# Altium integrated library Xilinx XC4000 XL.IntLib: 450 symbols (part 15 of 49)
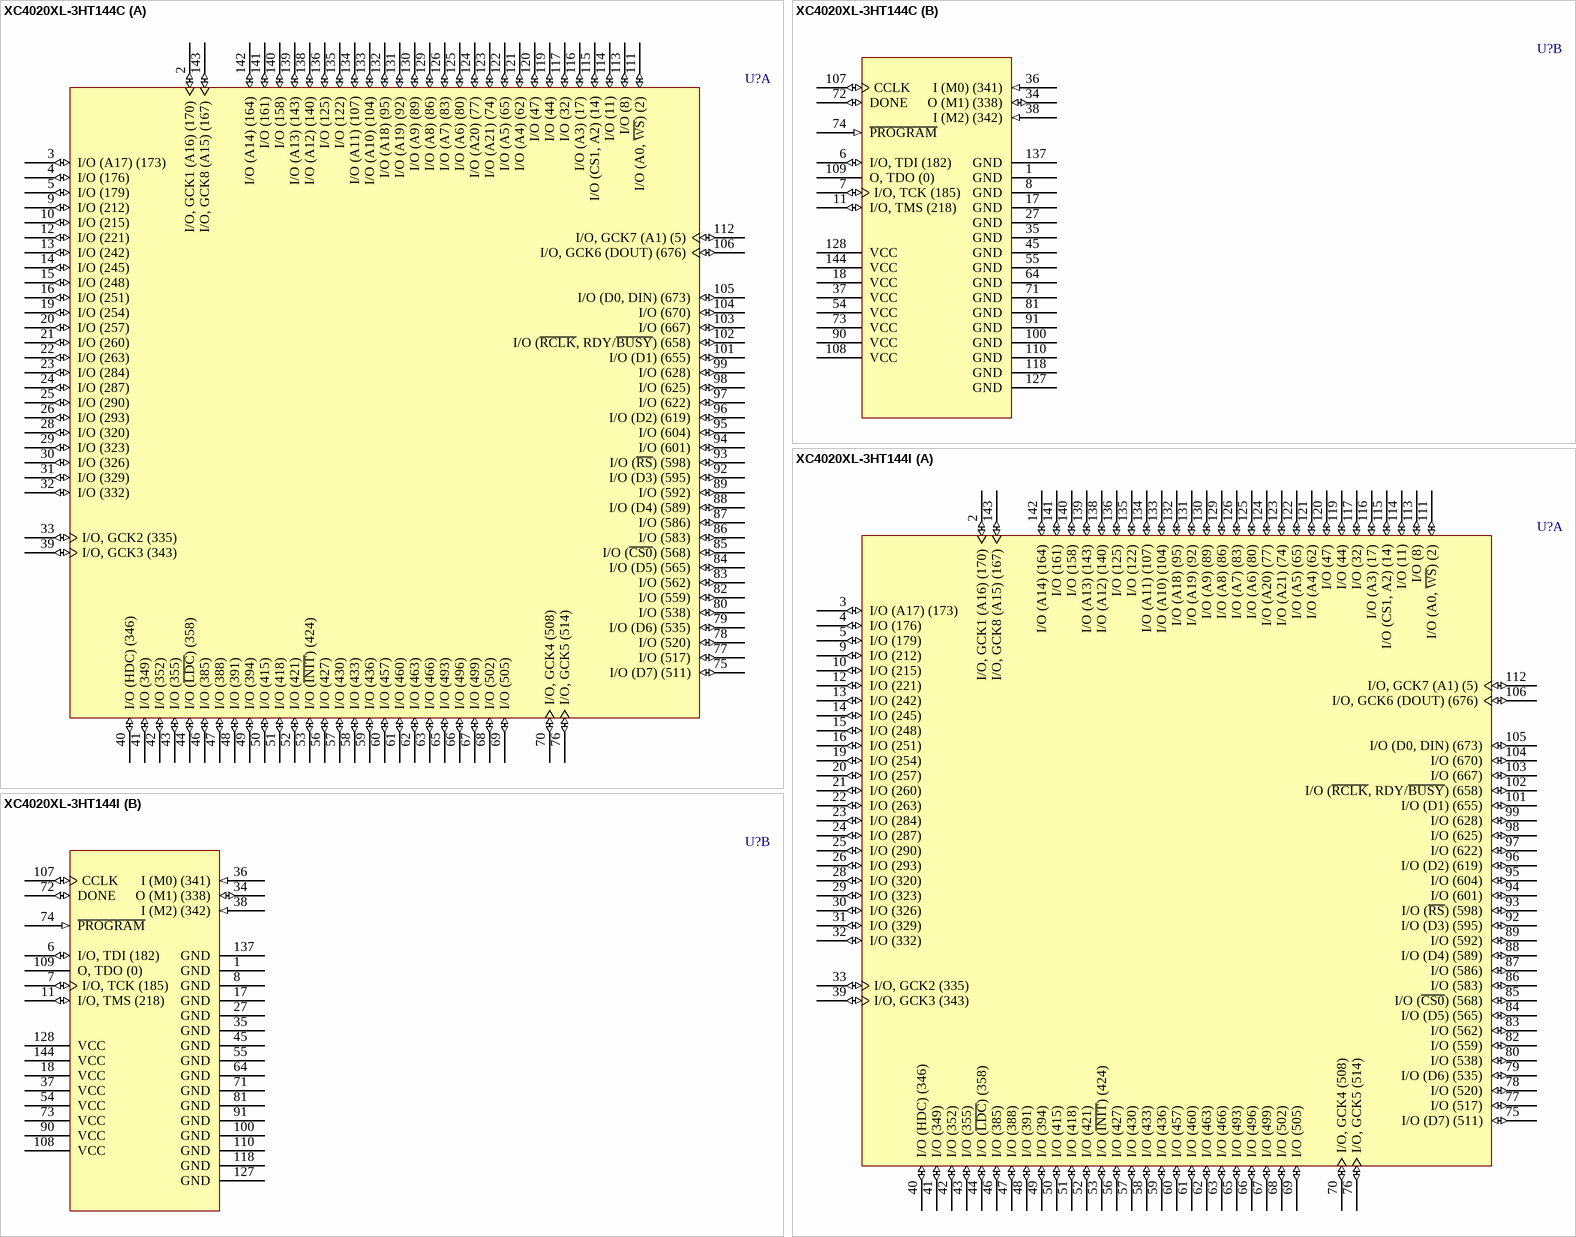
[diagram p413: symbols XC4020XL-3HT144C to XC4020XL-3HT144I]

## XC4020XL-3HT144I
designator U?
XC4000XL FPGA, 144-Pin HTQFP, Industrial Grade; PackageDocument: ver1.1, Oct-2002; Published: 28-Feb-2003; DatasheetDocument: (v1.6) May-99; PackageReference: HT144; Publisher: Altium Limited; Code_IPC: SQFP20X20-144
footprint HT144 (144-Pin Heat Sink Thin Quad Flat Pack (HT144))
part A pins: 2 I/O, GCK1 (A16) (170) (io), 3 I/O (A17) (173) (io), 4 I/O (176) (io), 5 I/O (179) (io), 9 I/O (212) (io), 10 I/O (215) (io), 12 I/O (221) (io), 13 I/O (242) (io), 14 I/O (245) (io), 15 I/O (248) (io), 16 I/O (251) (io), 19 I/O (254) (io), 20 I/O (257) (io), 21 I/O (260) (io), 22 I/O (263) (io), 23 I/O (284) (io), 24 I/O (287) (io), 25 I/O (290) (io), 26 I/O (293) (io), 28 I/O (320) (io), 29 I/O (323) (io), 30 I/O (326) (io), 31 I/O (329) (io), 32 I/O (332) (io), 33 I/O, GCK2 (335) (io), 39 I/O, GCK3 (343) (io), 40 I/O (HDC) (346) (io), 41 I/O (349) (io), 42 I/O (352) (io), 43 I/O (355) (io), 44 I/O (~{LDC}) (358) (io), 46 I/O (385) (io), 47 I/O (388) (io), 48 I/O (391) (io), 49 I/O (394) (io), 50 I/O (415) (io), 51 I/O (418) (io), 52 I/O (421) (io), 53 I/O (~{INIT}) (424) (io), 56 I/O (427) (io), 57 I/O (430) (io), 58 I/O (433) (io), 59 I/O (436) (io), 60 I/O (457) (io), 61 I/O (460) (io), 62 I/O (463) (io), 63 I/O (466) (io), 65 I/O (493) (io), 66 I/O (496) (io), 67 I/O (499) (io), 68 I/O (502) (io), 69 I/O (505) (io), 70 I/O, GCK4 (508) (io), 75 I/O (D7) (511) (io), 76 I/O, GCK5 (514) (io), 77 I/O (517) (io), 78 I/O (520) (io), 79 I/O (D6) (535) (io), 80 I/O (538) (io), 82 I/O (559) (io), 83 I/O (562) (io), 84 I/O (D5) (565) (io), 85 I/O (~{CS0}) (568) (io), 86 I/O (583) (io), 87 I/O (586) (io), 88 I/O (D4) (589) (io), 89 I/O (592) (io), 92 I/O (D3) (595) (io), 93 I/O (~{RS}) (598) (io), 94 I/O (601) (io), 95 I/O (604) (io), 96 I/O (D2) (619) (io), 97 I/O (622) (io), 98 I/O (625) (io), 99 I/O (628) (io), 101 I/O (D1) (655) (io), 102 I/O (~{RCLK}, RDY/~{BUSY}) (658) (io), 103 I/O (667) (io), 104 I/O (670) (io), 105 I/O (D0, DIN) (673) (io), 106 I/O, GCK6 (DOUT) (676) (io), 111 I/O (A0, ~{WS}) (2) (io), 112 I/O, GCK7 (A1) (5) (io), 113 I/O (8) (io), 114 I/O (11) (io), 115 I/O (CS1, A2) (14) (io), 116 I/O (A3) (17) (io), 117 I/O (32) (io), 119 I/O (44) (io), 120 I/O (47) (io), 121 I/O (A4) (62) (io), 122 I/O (A5) (65) (io), 123 I/O (A21) (74) (io), 124 I/O (A20) (77) (io), 125 I/O (A6) (80) (io), 126 I/O (A7) (83) (io), 129 I/O (A8) (86) (io), 130 I/O (A9) (89) (io), 131 I/O (A19) (92) (io), 132 I/O (A18) (95) (io), 133 I/O (A10) (104) (io), 134 I/O (A11) (107) (io), 135 I/O (122) (io), 136 I/O (125) (io), 138 I/O (A12) (140) (io), 139 I/O (A13) (143) (io), 140 I/O (158) (io), 141 I/O (161) (io), 142 I/O (A14) (164) (io), 143 I/O, GCK8 (A15) (167) (io)
part B pins: 1 GND (power), 6 I/O, TDI (182) (io), 7 I/O, TCK (185) (io), 8 GND (power), 11 I/O, TMS (218) (io), 17 GND (power), 18 VCC (power), 27 GND (power), 34 O (M1) (338) (io), 35 GND (power), 36 I (M0) (341) (in), 37 VCC (power), 38 I (M2) (342) (in), 45 GND (power), 54 VCC (power), 55 GND (power), 64 GND (power), 71 GND (power), 72 DONE (io), 73 VCC (power), 74 ~{PROGRAM} (in), 81 GND (power), 90 VCC (power), 91 GND (power), 100 GND (power), 107 CCLK (io), 108 VCC (power), 109 O, TDO (0) (hiz), 110 GND (power), 118 GND (power), 127 GND (power), 128 VCC (power), 137 GND (power), 144 VCC (power)

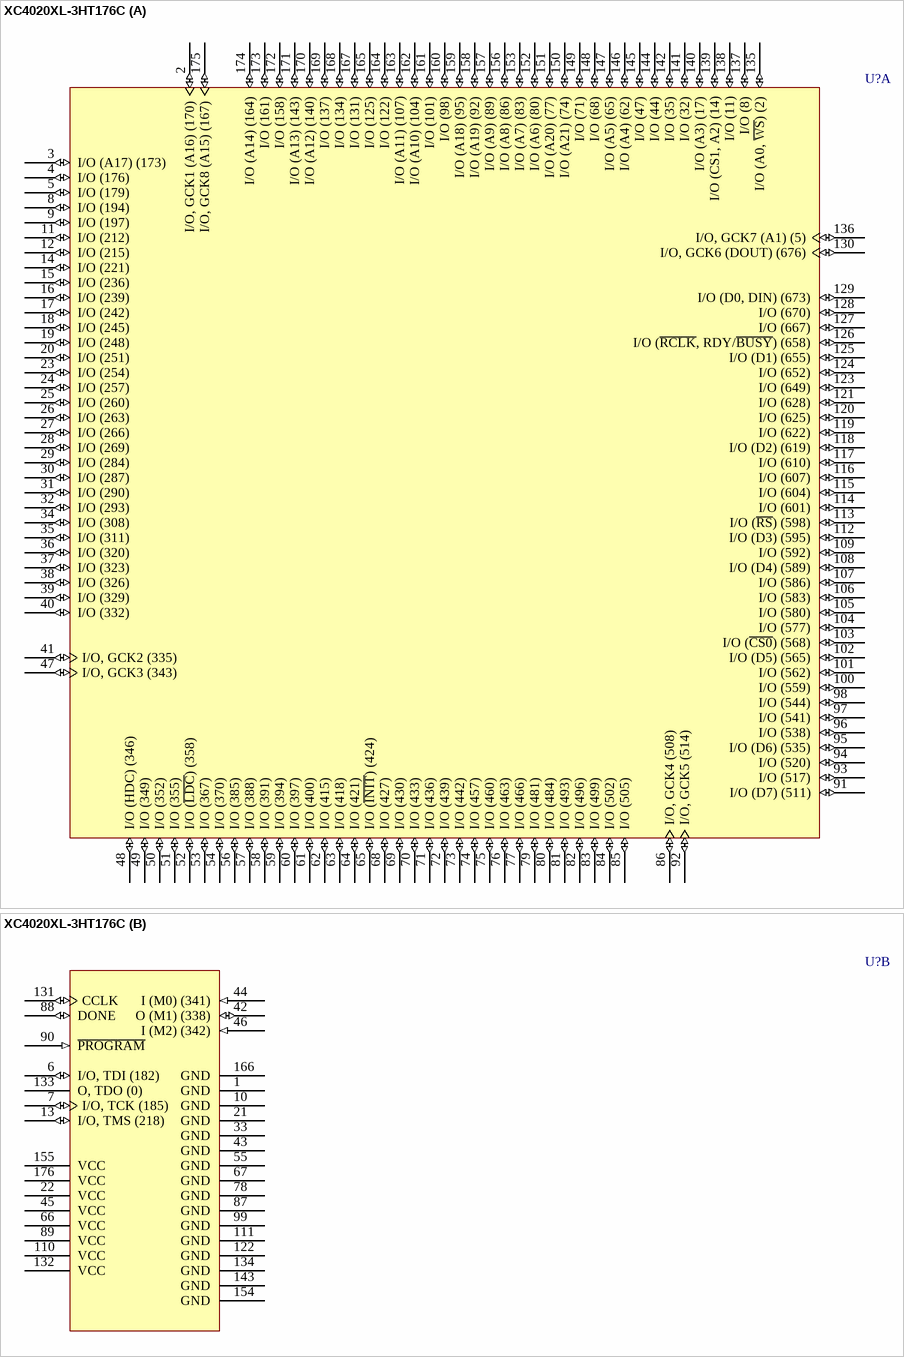
[diagram p147: symbol XC4020XL-3HT176C]

## XC4020XL-3HT176C
designator U?
XC4000XL FPGA, 176-Pin HTQFP, Commercial Grade; PackageDocument: ver1.1, Oct-2002; Published: 28-Feb-2003; DatasheetDocument: (v1.6) May-99; PackageReference: HT176; Publisher: Altium Limited
footprint HT176 (176-Pin Heat Sink Thin Quad Flat Pack (HT176))
part A pins: 2 I/O, GCK1 (A16) (170) (io), 3 I/O (A17) (173) (io), 4 I/O (176) (io), 5 I/O (179) (io), 8 I/O (194) (io), 9 I/O (197) (io), 11 I/O (212) (io), 12 I/O (215) (io), 14 I/O (221) (io), 15 I/O (236) (io), 16 I/O (239) (io), 17 I/O (242) (io), 18 I/O (245) (io), 19 I/O (248) (io), 20 I/O (251) (io), 23 I/O (254) (io), 24 I/O (257) (io), 25 I/O (260) (io), 26 I/O (263) (io), 27 I/O (266) (io), 28 I/O (269) (io), 29 I/O (284) (io), 30 I/O (287) (io), 31 I/O (290) (io), 32 I/O (293) (io), 34 I/O (308) (io), 35 I/O (311) (io), 36 I/O (320) (io), 37 I/O (323) (io), 38 I/O (326) (io), 39 I/O (329) (io), 40 I/O (332) (io), 41 I/O, GCK2 (335) (io), 47 I/O, GCK3 (343) (io), 48 I/O (HDC) (346) (io), 49 I/O (349) (io), 50 I/O (352) (io), 51 I/O (355) (io), 52 I/O (~{LDC}) (358) (io), 53 I/O (367) (io), 54 I/O (370) (io), 56 I/O (385) (io), 57 I/O (388) (io), 58 I/O (391) (io), 59 I/O (394) (io), 60 I/O (397) (io), 61 I/O (400) (io), 62 I/O (415) (io), 63 I/O (418) (io), 64 I/O (421) (io), 65 I/O (~{INIT}) (424) (io), 68 I/O (427) (io), 69 I/O (430) (io), 70 I/O (433) (io), 71 I/O (436) (io), 72 I/O (439) (io), 73 I/O (442) (io), 74 I/O (457) (io), 75 I/O (460) (io), 76 I/O (463) (io), 77 I/O (466) (io), 79 I/O (481) (io), 80 I/O (484) (io), 81 I/O (493) (io), 82 I/O (496) (io), 83 I/O (499) (io), 84 I/O (502) (io), 85 I/O (505) (io), 86 I/O, GCK4 (508) (io), 91 I/O (D7) (511) (io), 92 I/O, GCK5 (514) (io), 93 I/O (517) (io), 94 I/O (520) (io), 95 I/O (D6) (535) (io), 96 I/O (538) (io), 97 I/O (541) (io), 98 I/O (544) (io), 100 I/O (559) (io), 101 I/O (562) (io), 102 I/O (D5) (565) (io), 103 I/O (~{CS0}) (568) (io), 104 I/O (577) (io), 105 I/O (580) (io), 106 I/O (583) (io), 107 I/O (586) (io), 108 I/O (D4) (589) (io), 109 I/O (592) (io), 112 I/O (D3) (595) (io), 113 I/O (~{RS}) (598) (io), 114 I/O (601) (io), 115 I/O (604) (io), 116 I/O (607) (io), 117 I/O (610) (io), 118 I/O (D2) (619) (io), 119 I/O (622) (io), 120 I/O (625) (io), 121 I/O (628) (io), 123 I/O (649) (io), 124 I/O (652) (io), 125 I/O (D1) (655) (io), 126 I/O (~{RCLK}, RDY/~{BUSY}) (658) (io), 127 I/O (667) (io), 128 I/O (670) (io), 129 I/O (D0, DIN) (673) (io), 130 I/O, GCK6 (DOUT) (676) (io), 135 I/O (A0, ~{WS}) (2) (io), 136 I/O, GCK7 (A1) (5) (io), 137 I/O (8) (io), 138 I/O (11) (io), 139 I/O (CS1, A2) (14) (io), 140 I/O (A3) (17) (io), 141 I/O (32) (io), 142 I/O (35) (io), 144 I/O (44) (io), 145 I/O (47) (io), 146 I/O (A4) (62) (io), 147 I/O (A5) (65) (io), 148 I/O (68) (io), 149 I/O (71) (io), 150 I/O (A21) (74) (io), 151 I/O (A20) (77) (io), 152 I/O (A6) (80) (io), 153 I/O (A7) (83) (io), 156 I/O (A8) (86) (io), 157 I/O (A9) (89) (io), 158 I/O (A19) (92) (io), 159 I/O (A18) (95) (io), 160 I/O (98) (io), 161 I/O (101) (io), 162 I/O (A10) (104) (io), 163 I/O (A11) (107) (io), 164 I/O (122) (io), 165 I/O (125) (io), 167 I/O (131) (io), 168 I/O (134) (io), 169 I/O (137) (io), 170 I/O (A12) (140) (io), 171 I/O (A13) (143) (io), 172 I/O (158) (io), 173 I/O (161) (io), 174 I/O (A14) (164) (io), 175 I/O, GCK8 (A15) (167) (io)
part B pins: 1 GND (power), 6 I/O, TDI (182) (io), 7 I/O, TCK (185) (io), 10 GND (power), 13 I/O, TMS (218) (io), 21 GND (power), 22 VCC (power), 33 GND (power), 42 O (M1) (338) (io), 43 GND (power), 44 I (M0) (341) (in), 45 VCC (power), 46 I (M2) (342) (in), 55 GND (power), 66 VCC (power), 67 GND (power), 78 GND (power), 87 GND (power), 88 DONE (io), 89 VCC (power), 90 ~{PROGRAM} (in), 99 GND (power), 110 VCC (power), 111 GND (power), 122 GND (power), 131 CCLK (io), 132 VCC (power), 133 O, TDO (0) (hiz), 134 GND (power), 143 GND (power), 154 GND (power), 155 VCC (power), 166 GND (power), 176 VCC (power)

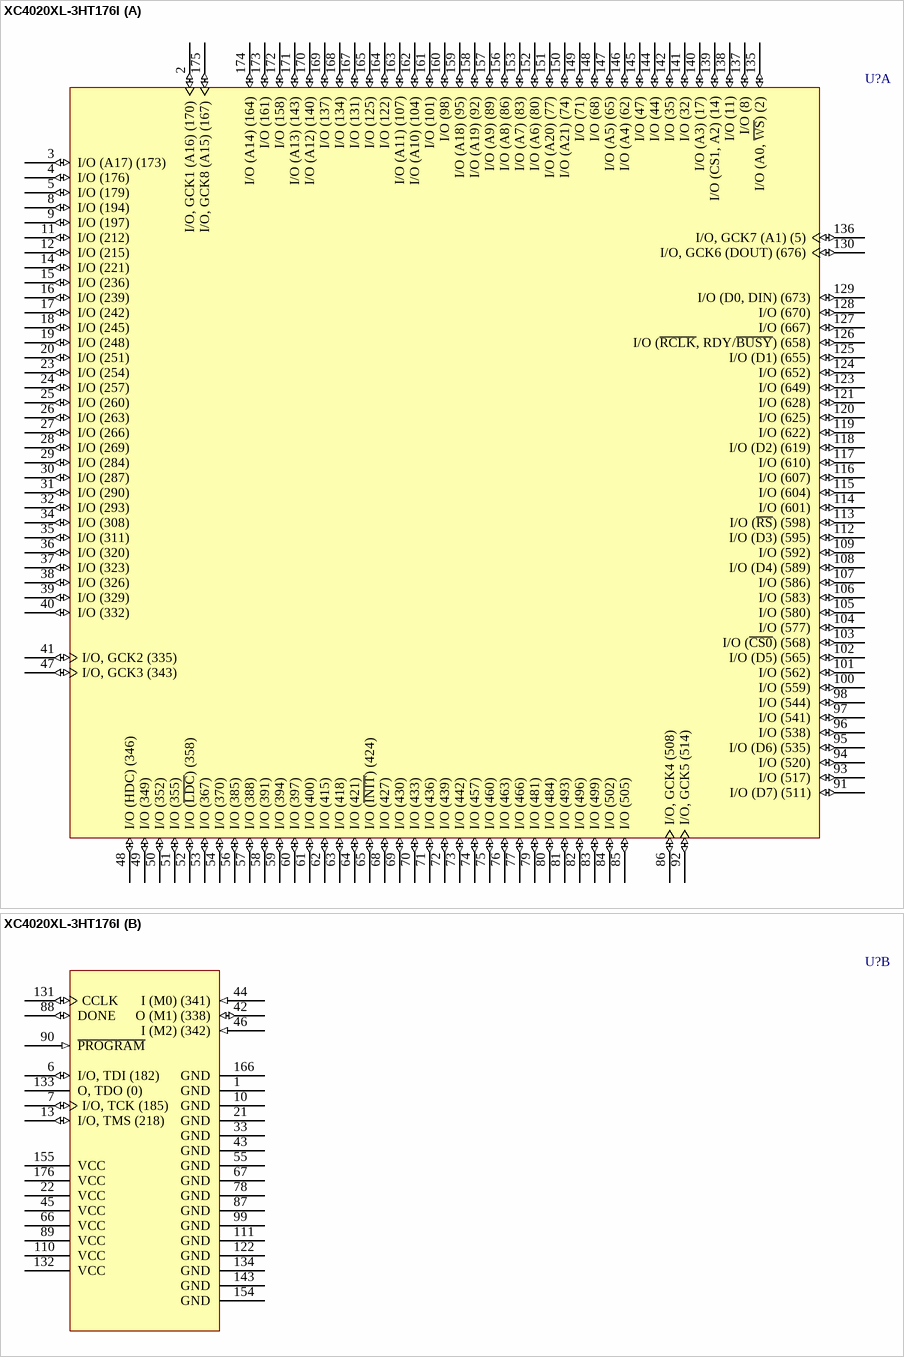
[diagram p148: symbol XC4020XL-3HT176I]

## XC4020XL-3HT176I
designator U?
XC4000XL FPGA, 176-Pin HTQFP, Industrial Grade; PackageDocument: ver1.1, Oct-2002; Published: 28-Feb-2003; DatasheetDocument: (v1.6) May-99; PackageReference: HT176; Publisher: Altium Limited
footprint HT176 (176-Pin Heat Sink Thin Quad Flat Pack (HT176))
part A pins: 2 I/O, GCK1 (A16) (170) (io), 3 I/O (A17) (173) (io), 4 I/O (176) (io), 5 I/O (179) (io), 8 I/O (194) (io), 9 I/O (197) (io), 11 I/O (212) (io), 12 I/O (215) (io), 14 I/O (221) (io), 15 I/O (236) (io), 16 I/O (239) (io), 17 I/O (242) (io), 18 I/O (245) (io), 19 I/O (248) (io), 20 I/O (251) (io), 23 I/O (254) (io), 24 I/O (257) (io), 25 I/O (260) (io), 26 I/O (263) (io), 27 I/O (266) (io), 28 I/O (269) (io), 29 I/O (284) (io), 30 I/O (287) (io), 31 I/O (290) (io), 32 I/O (293) (io), 34 I/O (308) (io), 35 I/O (311) (io), 36 I/O (320) (io), 37 I/O (323) (io), 38 I/O (326) (io), 39 I/O (329) (io), 40 I/O (332) (io), 41 I/O, GCK2 (335) (io), 47 I/O, GCK3 (343) (io), 48 I/O (HDC) (346) (io), 49 I/O (349) (io), 50 I/O (352) (io), 51 I/O (355) (io), 52 I/O (~{LDC}) (358) (io), 53 I/O (367) (io), 54 I/O (370) (io), 56 I/O (385) (io), 57 I/O (388) (io), 58 I/O (391) (io), 59 I/O (394) (io), 60 I/O (397) (io), 61 I/O (400) (io), 62 I/O (415) (io), 63 I/O (418) (io), 64 I/O (421) (io), 65 I/O (~{INIT}) (424) (io), 68 I/O (427) (io), 69 I/O (430) (io), 70 I/O (433) (io), 71 I/O (436) (io), 72 I/O (439) (io), 73 I/O (442) (io), 74 I/O (457) (io), 75 I/O (460) (io), 76 I/O (463) (io), 77 I/O (466) (io), 79 I/O (481) (io), 80 I/O (484) (io), 81 I/O (493) (io), 82 I/O (496) (io), 83 I/O (499) (io), 84 I/O (502) (io), 85 I/O (505) (io), 86 I/O, GCK4 (508) (io), 91 I/O (D7) (511) (io), 92 I/O, GCK5 (514) (io), 93 I/O (517) (io), 94 I/O (520) (io), 95 I/O (D6) (535) (io), 96 I/O (538) (io), 97 I/O (541) (io), 98 I/O (544) (io), 100 I/O (559) (io), 101 I/O (562) (io), 102 I/O (D5) (565) (io), 103 I/O (~{CS0}) (568) (io), 104 I/O (577) (io), 105 I/O (580) (io), 106 I/O (583) (io), 107 I/O (586) (io), 108 I/O (D4) (589) (io), 109 I/O (592) (io), 112 I/O (D3) (595) (io), 113 I/O (~{RS}) (598) (io), 114 I/O (601) (io), 115 I/O (604) (io), 116 I/O (607) (io), 117 I/O (610) (io), 118 I/O (D2) (619) (io), 119 I/O (622) (io), 120 I/O (625) (io), 121 I/O (628) (io), 123 I/O (649) (io), 124 I/O (652) (io), 125 I/O (D1) (655) (io), 126 I/O (~{RCLK}, RDY/~{BUSY}) (658) (io), 127 I/O (667) (io), 128 I/O (670) (io), 129 I/O (D0, DIN) (673) (io), 130 I/O, GCK6 (DOUT) (676) (io), 135 I/O (A0, ~{WS}) (2) (io), 136 I/O, GCK7 (A1) (5) (io), 137 I/O (8) (io), 138 I/O (11) (io), 139 I/O (CS1, A2) (14) (io), 140 I/O (A3) (17) (io), 141 I/O (32) (io), 142 I/O (35) (io), 144 I/O (44) (io), 145 I/O (47) (io), 146 I/O (A4) (62) (io), 147 I/O (A5) (65) (io), 148 I/O (68) (io), 149 I/O (71) (io), 150 I/O (A21) (74) (io), 151 I/O (A20) (77) (io), 152 I/O (A6) (80) (io), 153 I/O (A7) (83) (io), 156 I/O (A8) (86) (io), 157 I/O (A9) (89) (io), 158 I/O (A19) (92) (io), 159 I/O (A18) (95) (io), 160 I/O (98) (io), 161 I/O (101) (io), 162 I/O (A10) (104) (io), 163 I/O (A11) (107) (io), 164 I/O (122) (io), 165 I/O (125) (io), 167 I/O (131) (io), 168 I/O (134) (io), 169 I/O (137) (io), 170 I/O (A12) (140) (io), 171 I/O (A13) (143) (io), 172 I/O (158) (io), 173 I/O (161) (io), 174 I/O (A14) (164) (io), 175 I/O, GCK8 (A15) (167) (io)
part B pins: 1 GND (power), 6 I/O, TDI (182) (io), 7 I/O, TCK (185) (io), 10 GND (power), 13 I/O, TMS (218) (io), 21 GND (power), 22 VCC (power), 33 GND (power), 42 O (M1) (338) (io), 43 GND (power), 44 I (M0) (341) (in), 45 VCC (power), 46 I (M2) (342) (in), 55 GND (power), 66 VCC (power), 67 GND (power), 78 GND (power), 87 GND (power), 88 DONE (io), 89 VCC (power), 90 ~{PROGRAM} (in), 99 GND (power), 110 VCC (power), 111 GND (power), 122 GND (power), 131 CCLK (io), 132 VCC (power), 133 O, TDO (0) (hiz), 134 GND (power), 143 GND (power), 154 GND (power), 155 VCC (power), 166 GND (power), 176 VCC (power)

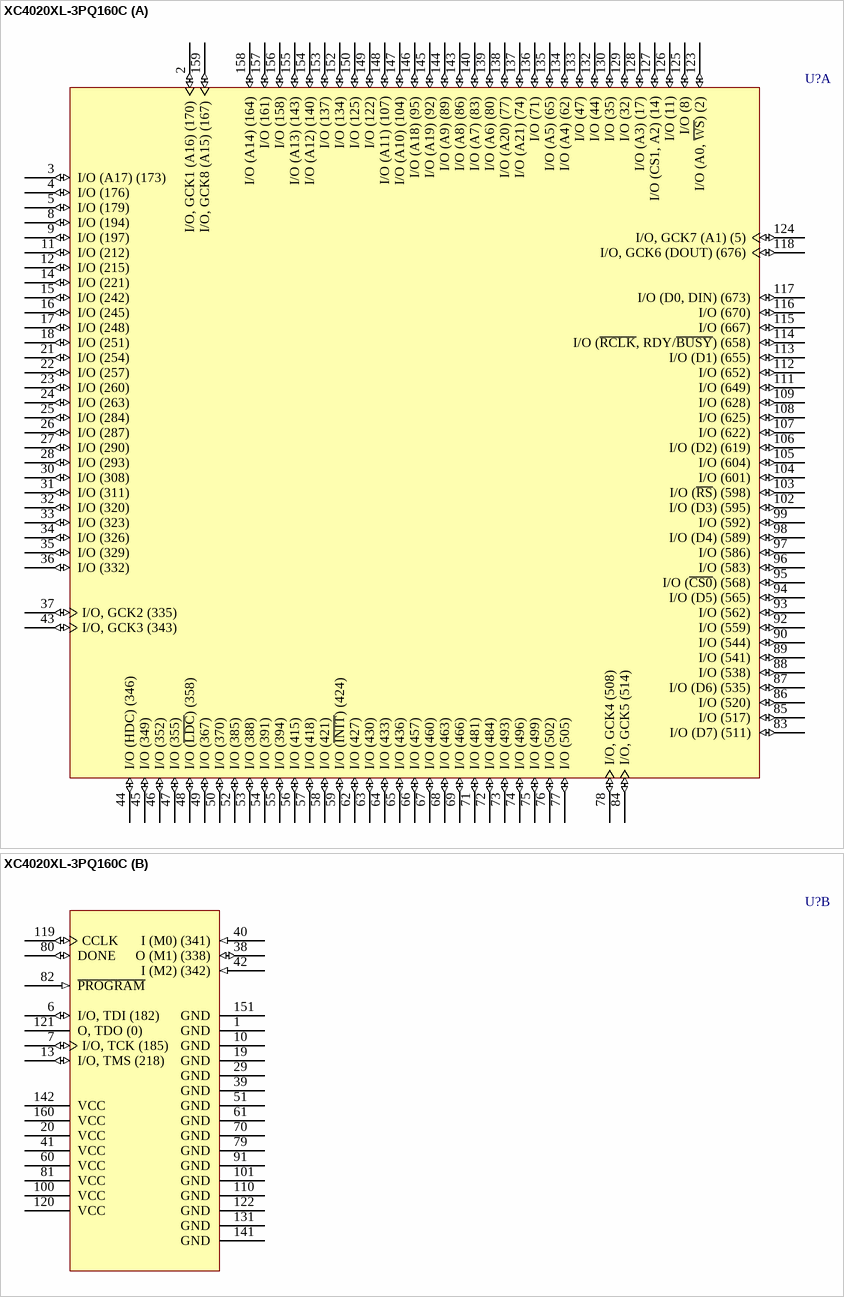
[diagram p149: symbol XC4020XL-3PQ160C]

## XC4020XL-3PQ160C
designator U?
XC4000XL FPGA, 160-Pin PQFP, Commercial Grade; PackageDocument: ver1.1, Oct-2002; Published: 28-Feb-2003; DatasheetDocument: (v1.6) May-99; PackageReference: PQ160; Publisher: Altium Limited; Code_JEDEC: MS-022-DD1
footprint PQ160 (160-Pin Plastic Quad Flat Pack (PQ160))
part A pins: 2 I/O, GCK1 (A16) (170) (io), 3 I/O (A17) (173) (io), 4 I/O (176) (io), 5 I/O (179) (io), 8 I/O (194) (io), 9 I/O (197) (io), 11 I/O (212) (io), 12 I/O (215) (io), 14 I/O (221) (io), 15 I/O (242) (io), 16 I/O (245) (io), 17 I/O (248) (io), 18 I/O (251) (io), 21 I/O (254) (io), 22 I/O (257) (io), 23 I/O (260) (io), 24 I/O (263) (io), 25 I/O (284) (io), 26 I/O (287) (io), 27 I/O (290) (io), 28 I/O (293) (io), 30 I/O (308) (io), 31 I/O (311) (io), 32 I/O (320) (io), 33 I/O (323) (io), 34 I/O (326) (io), 35 I/O (329) (io), 36 I/O (332) (io), 37 I/O, GCK2 (335) (io), 43 I/O, GCK3 (343) (io), 44 I/O (HDC) (346) (io), 45 I/O (349) (io), 46 I/O (352) (io), 47 I/O (355) (io), 48 I/O (~{LDC}) (358) (io), 49 I/O (367) (io), 50 I/O (370) (io), 52 I/O (385) (io), 53 I/O (388) (io), 54 I/O (391) (io), 55 I/O (394) (io), 56 I/O (415) (io), 57 I/O (418) (io), 58 I/O (421) (io), 59 I/O (~{INIT}) (424) (io), 62 I/O (427) (io), 63 I/O (430) (io), 64 I/O (433) (io), 65 I/O (436) (io), 66 I/O (457) (io), 67 I/O (460) (io), 68 I/O (463) (io), 69 I/O (466) (io), 71 I/O (481) (io), 72 I/O (484) (io), 73 I/O (493) (io), 74 I/O (496) (io), 75 I/O (499) (io), 76 I/O (502) (io), 77 I/O (505) (io), 78 I/O, GCK4 (508) (io), 83 I/O (D7) (511) (io), 84 I/O, GCK5 (514) (io), 85 I/O (517) (io), 86 I/O (520) (io), 87 I/O (D6) (535) (io), 88 I/O (538) (io), 89 I/O (541) (io), 90 I/O (544) (io), 92 I/O (559) (io), 93 I/O (562) (io), 94 I/O (D5) (565) (io), 95 I/O (~{CS0}) (568) (io), 96 I/O (583) (io), 97 I/O (586) (io), 98 I/O (D4) (589) (io), 99 I/O (592) (io), 102 I/O (D3) (595) (io), 103 I/O (~{RS}) (598) (io), 104 I/O (601) (io), 105 I/O (604) (io), 106 I/O (D2) (619) (io), 107 I/O (622) (io), 108 I/O (625) (io), 109 I/O (628) (io), 111 I/O (649) (io), 112 I/O (652) (io), 113 I/O (D1) (655) (io), 114 I/O (~{RCLK}, RDY/~{BUSY}) (658) (io), 115 I/O (667) (io), 116 I/O (670) (io), 117 I/O (D0, DIN) (673) (io), 118 I/O, GCK6 (DOUT) (676) (io), 123 I/O (A0, ~{WS}) (2) (io), 124 I/O, GCK7 (A1) (5) (io), 125 I/O (8) (io), 126 I/O (11) (io), 127 I/O (CS1, A2) (14) (io), 128 I/O (A3) (17) (io), 129 I/O (32) (io), 130 I/O (35) (io), 132 I/O (44) (io), 133 I/O (47) (io), 134 I/O (A4) (62) (io), 135 I/O (A5) (65) (io), 136 I/O (71) (io), 137 I/O (A21) (74) (io), 138 I/O (A20) (77) (io), 139 I/O (A6) (80) (io), 140 I/O (A7) (83) (io), 143 I/O (A8) (86) (io), 144 I/O (A9) (89) (io), 145 I/O (A19) (92) (io), 146 I/O (A18) (95) (io), 147 I/O (A10) (104) (io), 148 I/O (A11) (107) (io), 149 I/O (122) (io), 150 I/O (125) (io), 152 I/O (134) (io), 153 I/O (137) (io), 154 I/O (A12) (140) (io), 155 I/O (A13) (143) (io), 156 I/O (158) (io), 157 I/O (161) (io), 158 I/O (A14) (164) (io), 159 I/O, GCK8 (A15) (167) (io)
part B pins: 1 GND (power), 6 I/O, TDI (182) (io), 7 I/O, TCK (185) (io), 10 GND (power), 13 I/O, TMS (218) (io), 19 GND (power), 20 VCC (power), 29 GND (power), 38 O (M1) (338) (io), 39 GND (power), 40 I (M0) (341) (in), 41 VCC (power), 42 I (M2) (342) (in), 51 GND (power), 60 VCC (power), 61 GND (power), 70 GND (power), 79 GND (power), 80 DONE (io), 81 VCC (power), 82 ~{PROGRAM} (in), 91 GND (power), 100 VCC (power), 101 GND (power), 110 GND (power), 119 CCLK (io), 120 VCC (power), 121 O, TDO (0) (hiz), 122 GND (power), 131 GND (power), 141 GND (power), 142 VCC (power), 151 GND (power), 160 VCC (power)

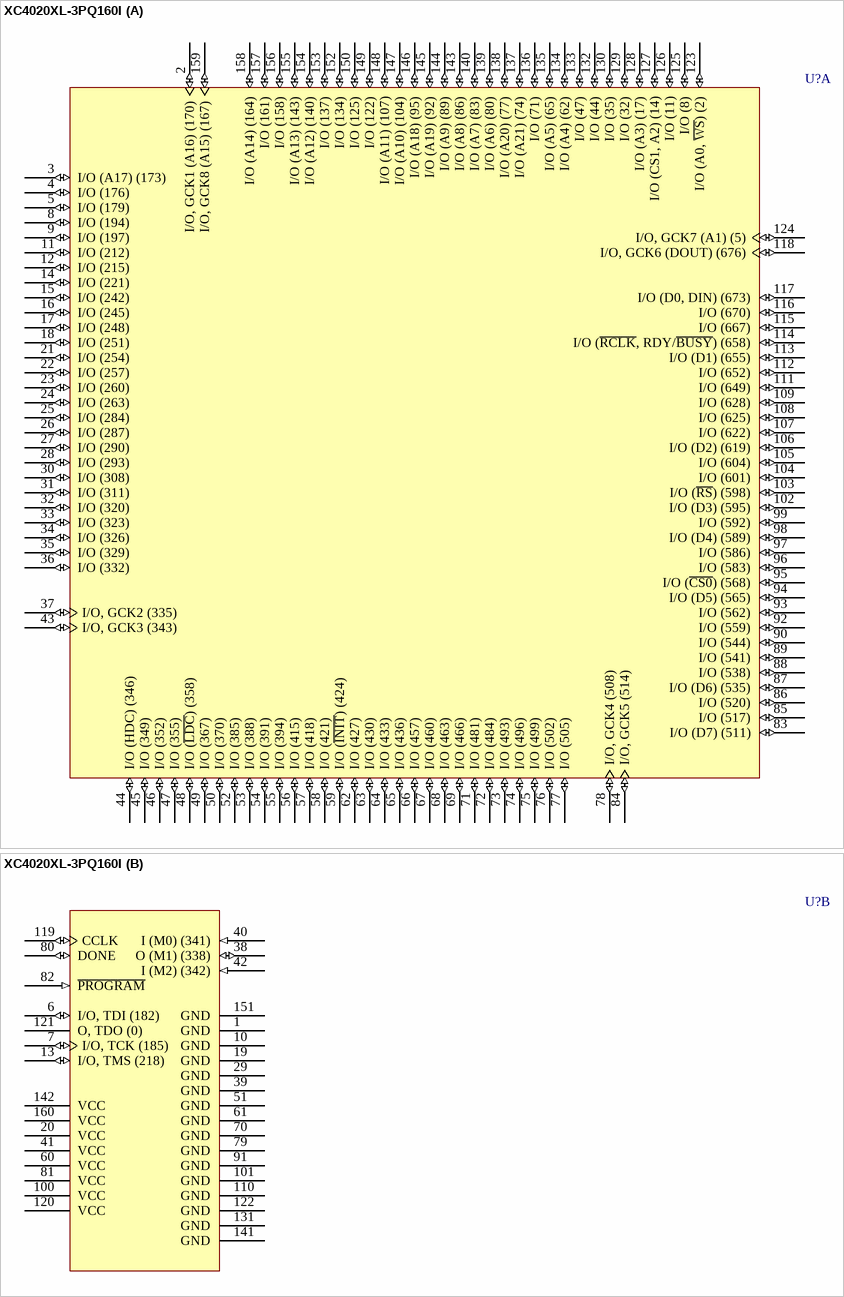
[diagram p150: symbol XC4020XL-3PQ160I]

## XC4020XL-3PQ160I
designator U?
XC4000XL FPGA, 160-Pin PQFP, Industrial Grade; PackageDocument: ver1.1, Oct-2002; Published: 28-Feb-2003; DatasheetDocument: (v1.6) May-99; PackageReference: PQ160; Publisher: Altium Limited; Code_JEDEC: MS-022-DD1
footprint PQ160 (160-Pin Plastic Quad Flat Pack (PQ160))
part A pins: 2 I/O, GCK1 (A16) (170) (io), 3 I/O (A17) (173) (io), 4 I/O (176) (io), 5 I/O (179) (io), 8 I/O (194) (io), 9 I/O (197) (io), 11 I/O (212) (io), 12 I/O (215) (io), 14 I/O (221) (io), 15 I/O (242) (io), 16 I/O (245) (io), 17 I/O (248) (io), 18 I/O (251) (io), 21 I/O (254) (io), 22 I/O (257) (io), 23 I/O (260) (io), 24 I/O (263) (io), 25 I/O (284) (io), 26 I/O (287) (io), 27 I/O (290) (io), 28 I/O (293) (io), 30 I/O (308) (io), 31 I/O (311) (io), 32 I/O (320) (io), 33 I/O (323) (io), 34 I/O (326) (io), 35 I/O (329) (io), 36 I/O (332) (io), 37 I/O, GCK2 (335) (io), 43 I/O, GCK3 (343) (io), 44 I/O (HDC) (346) (io), 45 I/O (349) (io), 46 I/O (352) (io), 47 I/O (355) (io), 48 I/O (~{LDC}) (358) (io), 49 I/O (367) (io), 50 I/O (370) (io), 52 I/O (385) (io), 53 I/O (388) (io), 54 I/O (391) (io), 55 I/O (394) (io), 56 I/O (415) (io), 57 I/O (418) (io), 58 I/O (421) (io), 59 I/O (~{INIT}) (424) (io), 62 I/O (427) (io), 63 I/O (430) (io), 64 I/O (433) (io), 65 I/O (436) (io), 66 I/O (457) (io), 67 I/O (460) (io), 68 I/O (463) (io), 69 I/O (466) (io), 71 I/O (481) (io), 72 I/O (484) (io), 73 I/O (493) (io), 74 I/O (496) (io), 75 I/O (499) (io), 76 I/O (502) (io), 77 I/O (505) (io), 78 I/O, GCK4 (508) (io), 83 I/O (D7) (511) (io), 84 I/O, GCK5 (514) (io), 85 I/O (517) (io), 86 I/O (520) (io), 87 I/O (D6) (535) (io), 88 I/O (538) (io), 89 I/O (541) (io), 90 I/O (544) (io), 92 I/O (559) (io), 93 I/O (562) (io), 94 I/O (D5) (565) (io), 95 I/O (~{CS0}) (568) (io), 96 I/O (583) (io), 97 I/O (586) (io), 98 I/O (D4) (589) (io), 99 I/O (592) (io), 102 I/O (D3) (595) (io), 103 I/O (~{RS}) (598) (io), 104 I/O (601) (io), 105 I/O (604) (io), 106 I/O (D2) (619) (io), 107 I/O (622) (io), 108 I/O (625) (io), 109 I/O (628) (io), 111 I/O (649) (io), 112 I/O (652) (io), 113 I/O (D1) (655) (io), 114 I/O (~{RCLK}, RDY/~{BUSY}) (658) (io), 115 I/O (667) (io), 116 I/O (670) (io), 117 I/O (D0, DIN) (673) (io), 118 I/O, GCK6 (DOUT) (676) (io), 123 I/O (A0, ~{WS}) (2) (io), 124 I/O, GCK7 (A1) (5) (io), 125 I/O (8) (io), 126 I/O (11) (io), 127 I/O (CS1, A2) (14) (io), 128 I/O (A3) (17) (io), 129 I/O (32) (io), 130 I/O (35) (io), 132 I/O (44) (io), 133 I/O (47) (io), 134 I/O (A4) (62) (io), 135 I/O (A5) (65) (io), 136 I/O (71) (io), 137 I/O (A21) (74) (io), 138 I/O (A20) (77) (io), 139 I/O (A6) (80) (io), 140 I/O (A7) (83) (io), 143 I/O (A8) (86) (io), 144 I/O (A9) (89) (io), 145 I/O (A19) (92) (io), 146 I/O (A18) (95) (io), 147 I/O (A10) (104) (io), 148 I/O (A11) (107) (io), 149 I/O (122) (io), 150 I/O (125) (io), 152 I/O (134) (io), 153 I/O (137) (io), 154 I/O (A12) (140) (io), 155 I/O (A13) (143) (io), 156 I/O (158) (io), 157 I/O (161) (io), 158 I/O (A14) (164) (io), 159 I/O, GCK8 (A15) (167) (io)
part B pins: 1 GND (power), 6 I/O, TDI (182) (io), 7 I/O, TCK (185) (io), 10 GND (power), 13 I/O, TMS (218) (io), 19 GND (power), 20 VCC (power), 29 GND (power), 38 O (M1) (338) (io), 39 GND (power), 40 I (M0) (341) (in), 41 VCC (power), 42 I (M2) (342) (in), 51 GND (power), 60 VCC (power), 61 GND (power), 70 GND (power), 79 GND (power), 80 DONE (io), 81 VCC (power), 82 ~{PROGRAM} (in), 91 GND (power), 100 VCC (power), 101 GND (power), 110 GND (power), 119 CCLK (io), 120 VCC (power), 121 O, TDO (0) (hiz), 122 GND (power), 131 GND (power), 141 GND (power), 142 VCC (power), 151 GND (power), 160 VCC (power)

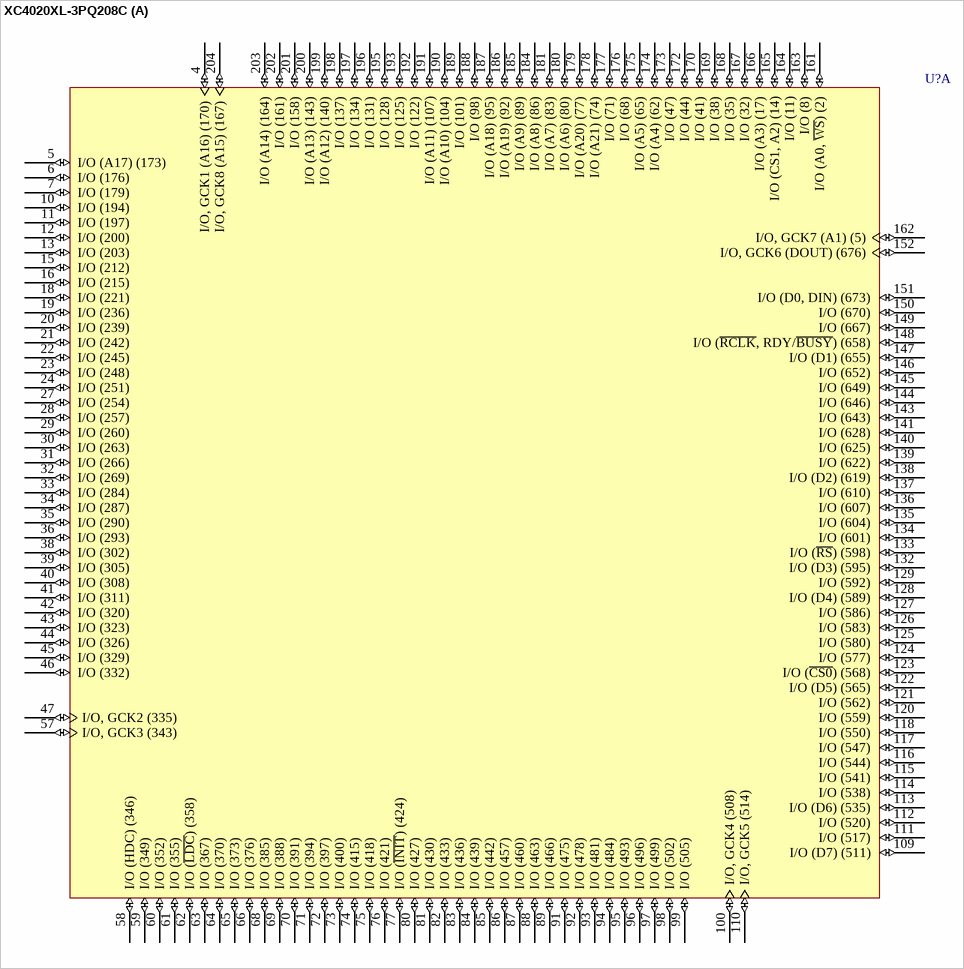
[diagram p151: symbol XC4020XL-3PQ208C]

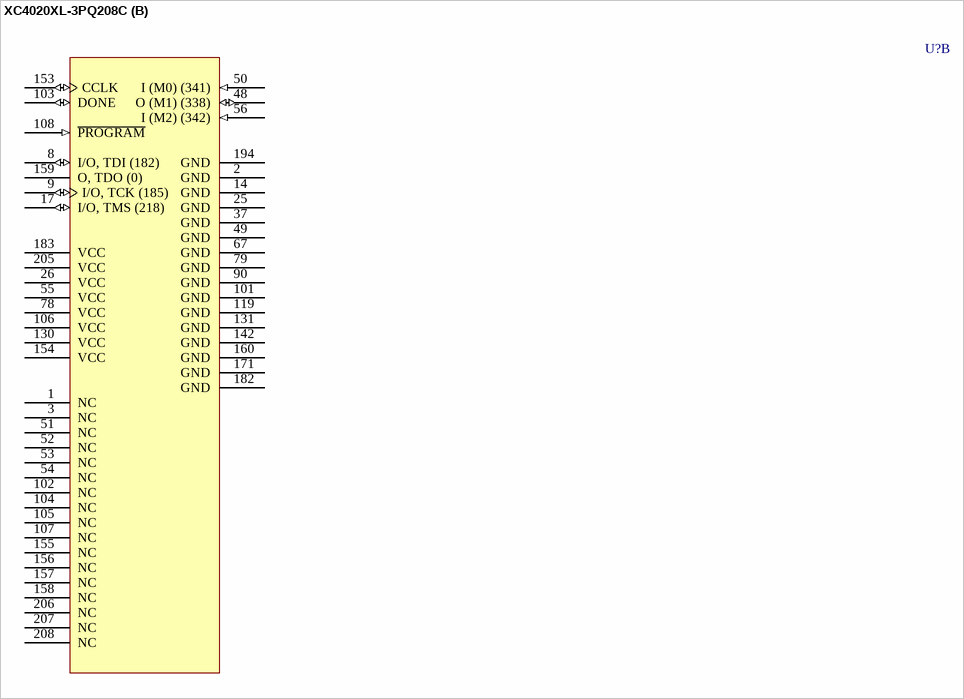
[diagram p152: symbol XC4020XL-3PQ208C]

## XC4020XL-3PQ208C
designator U?
XC4000XL FPGA, 208-Pin PQFP, Commercial Grade; PackageDocument: ver1.1, Oct-2002; Published: 28-Feb-2003; DatasheetDocument: (v1.6) May-99; PackageReference: PQ208; Publisher: Altium Limited; Code_JEDEC: MS-029-FA-1
footprint PQ208 (208-Pin Plastic Quad Flat Pack (PQ208))
part A pins: 4 I/O, GCK1 (A16) (170) (io), 5 I/O (A17) (173) (io), 6 I/O (176) (io), 7 I/O (179) (io), 10 I/O (194) (io), 11 I/O (197) (io), 12 I/O (200) (io), 13 I/O (203) (io), 15 I/O (212) (io), 16 I/O (215) (io), 18 I/O (221) (io), 19 I/O (236) (io), 20 I/O (239) (io), 21 I/O (242) (io), 22 I/O (245) (io), 23 I/O (248) (io), 24 I/O (251) (io), 27 I/O (254) (io), 28 I/O (257) (io), 29 I/O (260) (io), 30 I/O (263) (io), 31 I/O (266) (io), 32 I/O (269) (io), 33 I/O (284) (io), 34 I/O (287) (io), 35 I/O (290) (io), 36 I/O (293) (io), 38 I/O (302) (io), 39 I/O (305) (io), 40 I/O (308) (io), 41 I/O (311) (io), 42 I/O (320) (io), 43 I/O (323) (io), 44 I/O (326) (io), 45 I/O (329) (io), 46 I/O (332) (io), 47 I/O, GCK2 (335) (io), 57 I/O, GCK3 (343) (io), 58 I/O (HDC) (346) (io), 59 I/O (349) (io), 60 I/O (352) (io), 61 I/O (355) (io), 62 I/O (~{LDC}) (358) (io), 63 I/O (367) (io), 64 I/O (370) (io), 65 I/O (373) (io), 66 I/O (376) (io), 68 I/O (385) (io), 69 I/O (388) (io), 70 I/O (391) (io), 71 I/O (394) (io), 72 I/O (397) (io), 73 I/O (400) (io), 74 I/O (415) (io), 75 I/O (418) (io), 76 I/O (421) (io), 77 I/O (~{INIT}) (424) (io), 80 I/O (427) (io), 81 I/O (430) (io), 82 I/O (433) (io), 83 I/O (436) (io), 84 I/O (439) (io), 85 I/O (442) (io), 86 I/O (457) (io), 87 I/O (460) (io), 88 I/O (463) (io), 89 I/O (466) (io), 91 I/O (475) (io), 92 I/O (478) (io), 93 I/O (481) (io), 94 I/O (484) (io), 95 I/O (493) (io), 96 I/O (496) (io), 97 I/O (499) (io), 98 I/O (502) (io), 99 I/O (505) (io), 100 I/O, GCK4 (508) (io), 109 I/O (D7) (511) (io), 110 I/O, GCK5 (514) (io), 111 I/O (517) (io), 112 I/O (520) (io), 113 I/O (D6) (535) (io), 114 I/O (538) (io), 115 I/O (541) (io), 116 I/O (544) (io), 117 I/O (547) (io), 118 I/O (550) (io), 120 I/O (559) (io), 121 I/O (562) (io), 122 I/O (D5) (565) (io), 123 I/O (~{CS0}) (568) (io), 124 I/O (577) (io), 125 I/O (580) (io), 126 I/O (583) (io), 127 I/O (586) (io), 128 I/O (D4) (589) (io), 129 I/O (592) (io), 132 I/O (D3) (595) (io), 133 I/O (~{RS}) (598) (io), 134 I/O (601) (io), 135 I/O (604) (io), 136 I/O (607) (io), 137 I/O (610) (io), 138 I/O (D2) (619) (io), 139 I/O (622) (io), 140 I/O (625) (io), 141 I/O (628) (io), 143 I/O (643) (io), 144 I/O (646) (io), 145 I/O (649) (io), 146 I/O (652) (io), 147 I/O (D1) (655) (io), 148 I/O (~{RCLK}, RDY/~{BUSY}) (658) (io), 149 I/O (667) (io), 150 I/O (670) (io), 151 I/O (D0, DIN) (673) (io), 152 I/O, GCK6 (DOUT) (676) (io), 161 I/O (A0, ~{WS}) (2) (io), 162 I/O, GCK7 (A1) (5) (io), 163 I/O (8) (io), 164 I/O (11) (io), 165 I/O (CS1, A2) (14) (io), 166 I/O (A3) (17) (io), 167 I/O (32) (io), 168 I/O (35) (io), 169 I/O (38) (io), 170 I/O (41) (io), 172 I/O (44) (io), 173 I/O (47) (io), 174 I/O (A4) (62) (io), 175 I/O (A5) (65) (io), 176 I/O (68) (io), 177 I/O (71) (io), 178 I/O (A21) (74) (io), 179 I/O (A20) (77) (io), 180 I/O (A6) (80) (io), 181 I/O (A7) (83) (io), 184 I/O (A8) (86) (io), 185 I/O (A9) (89) (io), 186 I/O (A19) (92) (io), 187 I/O (A18) (95) (io), 188 I/O (98) (io), 189 I/O (101) (io), 190 I/O (A10) (104) (io), 191 I/O (A11) (107) (io), 192 I/O (122) (io), 193 I/O (125) (io), 195 I/O (128) (io), 196 I/O (131) (io), 197 I/O (134) (io), 198 I/O (137) (io), 199 I/O (A12) (140) (io), 200 I/O (A13) (143) (io), 201 I/O (158) (io), 202 I/O (161) (io), 203 I/O (A14) (164) (io), 204 I/O, GCK8 (A15) (167) (io)
part B pins: 1 NC, 2 GND (power), 3 NC, 8 I/O, TDI (182) (io), 9 I/O, TCK (185) (io), 14 GND (power), 17 I/O, TMS (218) (io), 25 GND (power), 26 VCC (power), 37 GND (power), 48 O (M1) (338) (io), 49 GND (power), 50 I (M0) (341) (in), 51 NC, 52 NC, 53 NC, 54 NC, 55 VCC (power), 56 I (M2) (342) (in), 67 GND (power), 78 VCC (power), 79 GND (power), 90 GND (power), 101 GND (power), 102 NC, 103 DONE (io), 104 NC, 105 NC, 106 VCC (power), 107 NC, 108 ~{PROGRAM} (in), 119 GND (power), 130 VCC (power), 131 GND (power), 142 GND (power), 153 CCLK (io), 154 VCC (power), 155 NC, 156 NC, 157 NC, 158 NC, 159 O, TDO (0) (hiz), 160 GND (power), 171 GND (power), 182 GND (power), 183 VCC (power), 194 GND (power), 205 VCC (power), 206 NC, 207 NC, 208 NC

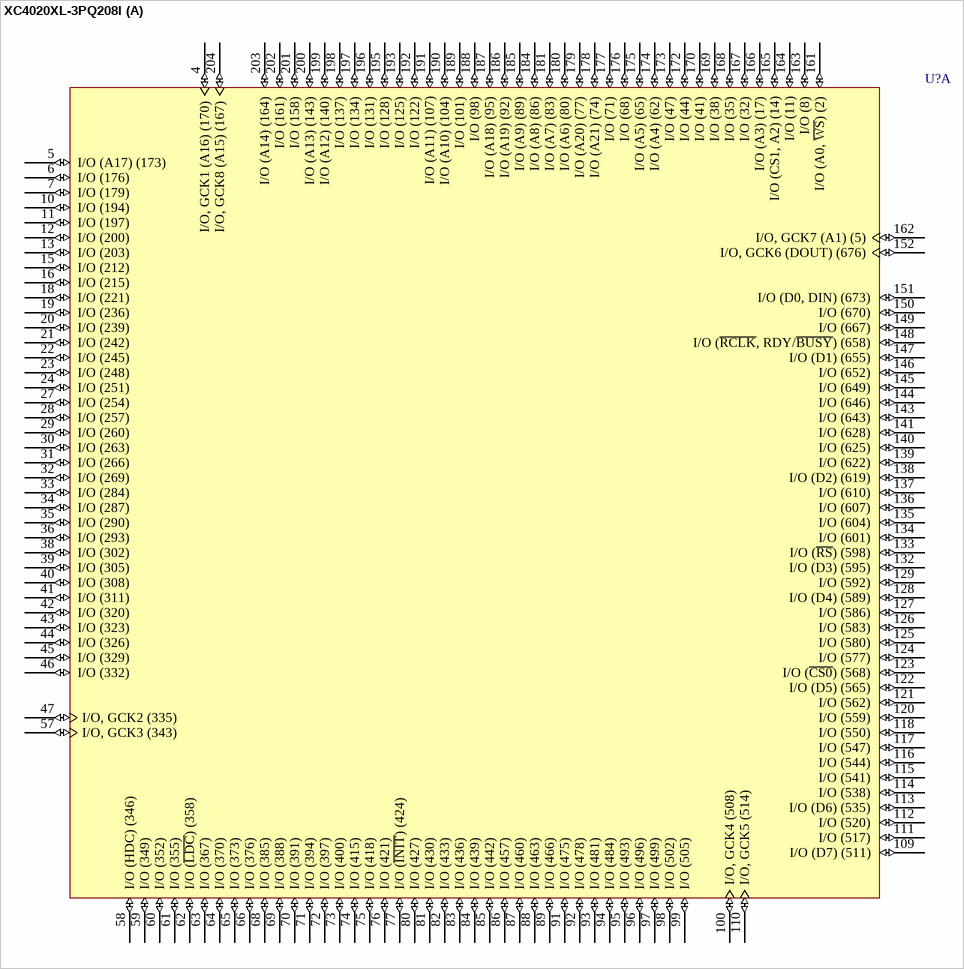
[diagram p153: symbol XC4020XL-3PQ208I]

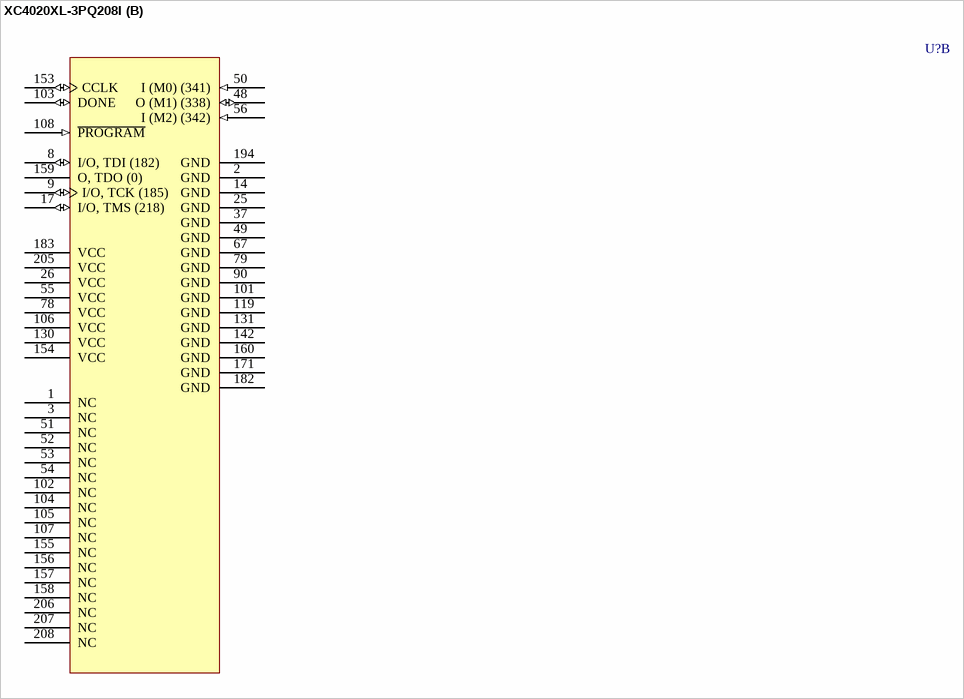
[diagram p154: symbol XC4020XL-3PQ208I]

## XC4020XL-3PQ208I
designator U?
XC4000XL FPGA, 208-Pin PQFP, Industrial Grade; PackageDocument: ver1.1, Oct-2002; Published: 28-Feb-2003; DatasheetDocument: (v1.6) May-99; PackageReference: PQ208; Publisher: Altium Limited; Code_JEDEC: MS-029-FA-1
footprint PQ208 (208-Pin Plastic Quad Flat Pack (PQ208))
part A pins: 4 I/O, GCK1 (A16) (170) (io), 5 I/O (A17) (173) (io), 6 I/O (176) (io), 7 I/O (179) (io), 10 I/O (194) (io), 11 I/O (197) (io), 12 I/O (200) (io), 13 I/O (203) (io), 15 I/O (212) (io), 16 I/O (215) (io), 18 I/O (221) (io), 19 I/O (236) (io), 20 I/O (239) (io), 21 I/O (242) (io), 22 I/O (245) (io), 23 I/O (248) (io), 24 I/O (251) (io), 27 I/O (254) (io), 28 I/O (257) (io), 29 I/O (260) (io), 30 I/O (263) (io), 31 I/O (266) (io), 32 I/O (269) (io), 33 I/O (284) (io), 34 I/O (287) (io), 35 I/O (290) (io), 36 I/O (293) (io), 38 I/O (302) (io), 39 I/O (305) (io), 40 I/O (308) (io), 41 I/O (311) (io), 42 I/O (320) (io), 43 I/O (323) (io), 44 I/O (326) (io), 45 I/O (329) (io), 46 I/O (332) (io), 47 I/O, GCK2 (335) (io), 57 I/O, GCK3 (343) (io), 58 I/O (HDC) (346) (io), 59 I/O (349) (io), 60 I/O (352) (io), 61 I/O (355) (io), 62 I/O (~{LDC}) (358) (io), 63 I/O (367) (io), 64 I/O (370) (io), 65 I/O (373) (io), 66 I/O (376) (io), 68 I/O (385) (io), 69 I/O (388) (io), 70 I/O (391) (io), 71 I/O (394) (io), 72 I/O (397) (io), 73 I/O (400) (io), 74 I/O (415) (io), 75 I/O (418) (io), 76 I/O (421) (io), 77 I/O (~{INIT}) (424) (io), 80 I/O (427) (io), 81 I/O (430) (io), 82 I/O (433) (io), 83 I/O (436) (io), 84 I/O (439) (io), 85 I/O (442) (io), 86 I/O (457) (io), 87 I/O (460) (io), 88 I/O (463) (io), 89 I/O (466) (io), 91 I/O (475) (io), 92 I/O (478) (io), 93 I/O (481) (io), 94 I/O (484) (io), 95 I/O (493) (io), 96 I/O (496) (io), 97 I/O (499) (io), 98 I/O (502) (io), 99 I/O (505) (io), 100 I/O, GCK4 (508) (io), 109 I/O (D7) (511) (io), 110 I/O, GCK5 (514) (io), 111 I/O (517) (io), 112 I/O (520) (io), 113 I/O (D6) (535) (io), 114 I/O (538) (io), 115 I/O (541) (io), 116 I/O (544) (io), 117 I/O (547) (io), 118 I/O (550) (io), 120 I/O (559) (io), 121 I/O (562) (io), 122 I/O (D5) (565) (io), 123 I/O (~{CS0}) (568) (io), 124 I/O (577) (io), 125 I/O (580) (io), 126 I/O (583) (io), 127 I/O (586) (io), 128 I/O (D4) (589) (io), 129 I/O (592) (io), 132 I/O (D3) (595) (io), 133 I/O (~{RS}) (598) (io), 134 I/O (601) (io), 135 I/O (604) (io), 136 I/O (607) (io), 137 I/O (610) (io), 138 I/O (D2) (619) (io), 139 I/O (622) (io), 140 I/O (625) (io), 141 I/O (628) (io), 143 I/O (643) (io), 144 I/O (646) (io), 145 I/O (649) (io), 146 I/O (652) (io), 147 I/O (D1) (655) (io), 148 I/O (~{RCLK}, RDY/~{BUSY}) (658) (io), 149 I/O (667) (io), 150 I/O (670) (io), 151 I/O (D0, DIN) (673) (io), 152 I/O, GCK6 (DOUT) (676) (io), 161 I/O (A0, ~{WS}) (2) (io), 162 I/O, GCK7 (A1) (5) (io), 163 I/O (8) (io), 164 I/O (11) (io), 165 I/O (CS1, A2) (14) (io), 166 I/O (A3) (17) (io), 167 I/O (32) (io), 168 I/O (35) (io), 169 I/O (38) (io), 170 I/O (41) (io), 172 I/O (44) (io), 173 I/O (47) (io), 174 I/O (A4) (62) (io), 175 I/O (A5) (65) (io), 176 I/O (68) (io), 177 I/O (71) (io), 178 I/O (A21) (74) (io), 179 I/O (A20) (77) (io), 180 I/O (A6) (80) (io), 181 I/O (A7) (83) (io), 184 I/O (A8) (86) (io), 185 I/O (A9) (89) (io), 186 I/O (A19) (92) (io), 187 I/O (A18) (95) (io), 188 I/O (98) (io), 189 I/O (101) (io), 190 I/O (A10) (104) (io), 191 I/O (A11) (107) (io), 192 I/O (122) (io), 193 I/O (125) (io), 195 I/O (128) (io), 196 I/O (131) (io), 197 I/O (134) (io), 198 I/O (137) (io), 199 I/O (A12) (140) (io), 200 I/O (A13) (143) (io), 201 I/O (158) (io), 202 I/O (161) (io), 203 I/O (A14) (164) (io), 204 I/O, GCK8 (A15) (167) (io)
part B pins: 1 NC, 2 GND (power), 3 NC, 8 I/O, TDI (182) (io), 9 I/O, TCK (185) (io), 14 GND (power), 17 I/O, TMS (218) (io), 25 GND (power), 26 VCC (power), 37 GND (power), 48 O (M1) (338) (io), 49 GND (power), 50 I (M0) (341) (in), 51 NC, 52 NC, 53 NC, 54 NC, 55 VCC (power), 56 I (M2) (342) (in), 67 GND (power), 78 VCC (power), 79 GND (power), 90 GND (power), 101 GND (power), 102 NC, 103 DONE (io), 104 NC, 105 NC, 106 VCC (power), 107 NC, 108 ~{PROGRAM} (in), 119 GND (power), 130 VCC (power), 131 GND (power), 142 GND (power), 153 CCLK (io), 154 VCC (power), 155 NC, 156 NC, 157 NC, 158 NC, 159 O, TDO (0) (hiz), 160 GND (power), 171 GND (power), 182 GND (power), 183 VCC (power), 194 GND (power), 205 VCC (power), 206 NC, 207 NC, 208 NC

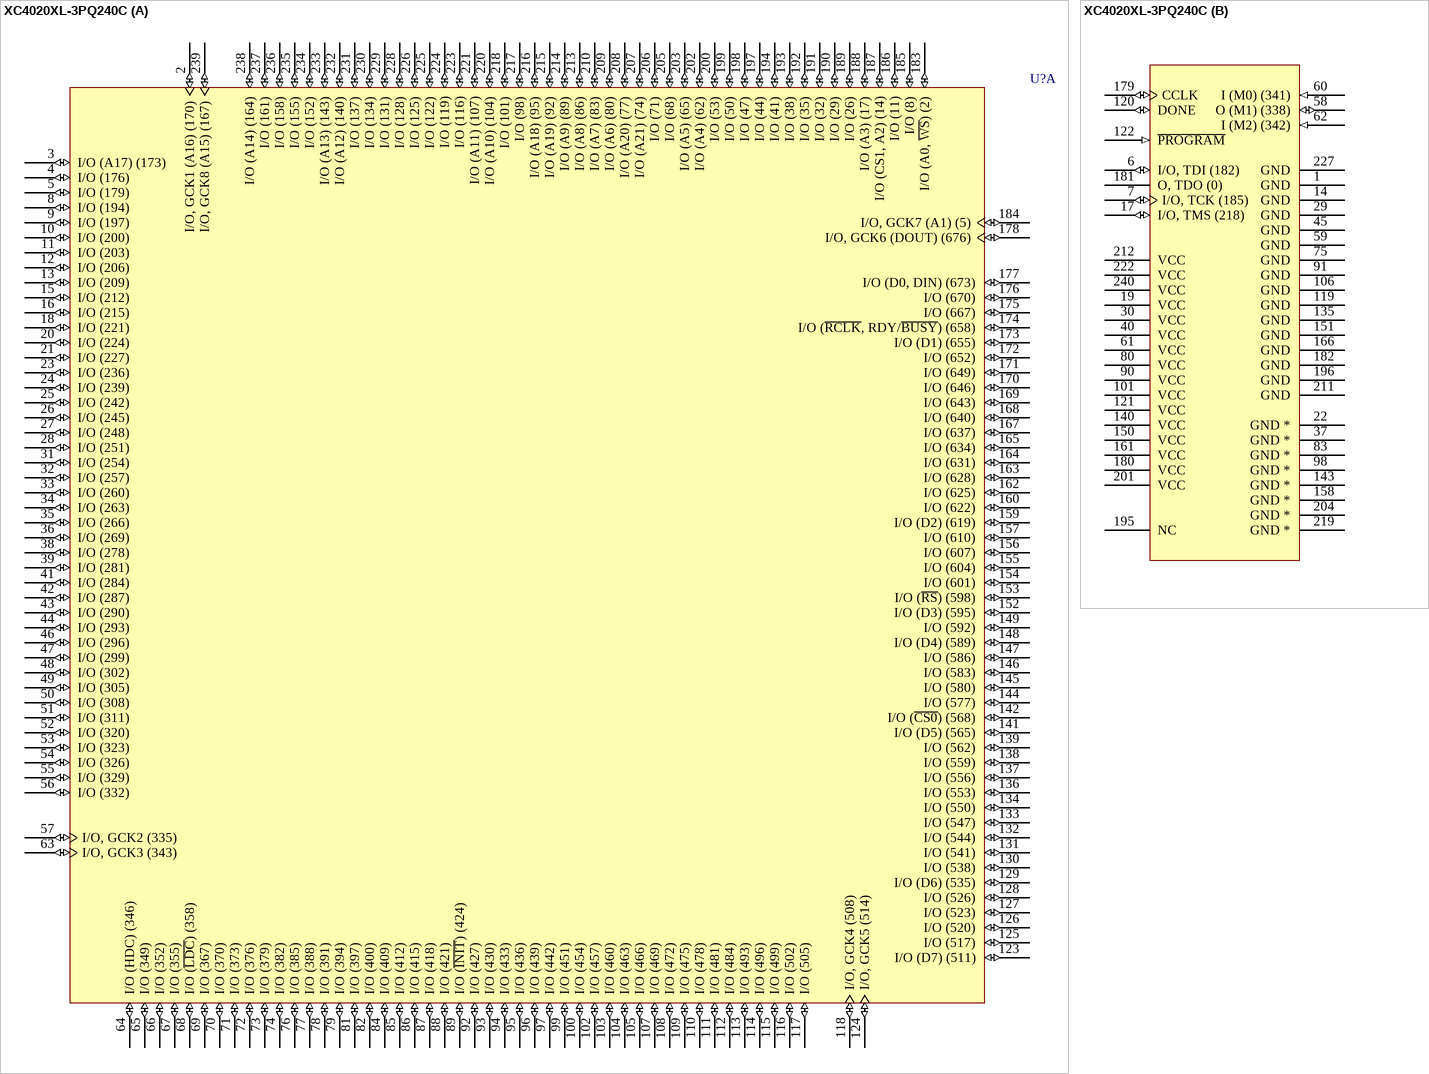
[diagram p155: symbol XC4020XL-3PQ240C]

## XC4020XL-3PQ240C
designator U?
XC4000XL FPGA, 240-Pin PQFP, Commercial Grade; PackageDocument: ver1.1, Oct-2002; Published: 28-Feb-2003; DatasheetDocument: (v1.6) May-99; PackageReference: PQ240; Publisher: Altium Limited; Code_JEDEC: MO-143-GA
footprint PQ240 (240-Pin Plastic Quad Flat Pack (PQ240))
part A pins: 2 I/O, GCK1 (A16) (170) (io), 3 I/O (A17) (173) (io), 4 I/O (176) (io), 5 I/O (179) (io), 8 I/O (194) (io), 9 I/O (197) (io), 10 I/O (200) (io), 11 I/O (203) (io), 12 I/O (206) (io), 13 I/O (209) (io), 15 I/O (212) (io), 16 I/O (215) (io), 18 I/O (221) (io), 20 I/O (224) (io), 21 I/O (227) (io), 23 I/O (236) (io), 24 I/O (239) (io), 25 I/O (242) (io), 26 I/O (245) (io), 27 I/O (248) (io), 28 I/O (251) (io), 31 I/O (254) (io), 32 I/O (257) (io), 33 I/O (260) (io), 34 I/O (263) (io), 35 I/O (266) (io), 36 I/O (269) (io), 38 I/O (278) (io), 39 I/O (281) (io), 41 I/O (284) (io), 42 I/O (287) (io), 43 I/O (290) (io), 44 I/O (293) (io), 46 I/O (296) (io), 47 I/O (299) (io), 48 I/O (302) (io), 49 I/O (305) (io), 50 I/O (308) (io), 51 I/O (311) (io), 52 I/O (320) (io), 53 I/O (323) (io), 54 I/O (326) (io), 55 I/O (329) (io), 56 I/O (332) (io), 57 I/O, GCK2 (335) (io), 63 I/O, GCK3 (343) (io), 64 I/O (HDC) (346) (io), 65 I/O (349) (io), 66 I/O (352) (io), 67 I/O (355) (io), 68 I/O (~{LDC}) (358) (io), 69 I/O (367) (io), 70 I/O (370) (io), 71 I/O (373) (io), 72 I/O (376) (io), 73 I/O (379) (io), 74 I/O (382) (io), 76 I/O (385) (io), 77 I/O (388) (io), 78 I/O (391) (io), 79 I/O (394) (io), 81 I/O (397) (io), 82 I/O (400) (io), 84 I/O (409) (io), 85 I/O (412) (io), 86 I/O (415) (io), 87 I/O (418) (io), 88 I/O (421) (io), 89 I/O (~{INIT}) (424) (io), 92 I/O (427) (io), 93 I/O (430) (io), 94 I/O (433) (io), 95 I/O (436) (io), 96 I/O (439) (io), 97 I/O (442) (io), 99 I/O (451) (io), 100 I/O (454) (io), 102 I/O (457) (io), 103 I/O (460) (io), 104 I/O (463) (io), 105 I/O (466) (io), 107 I/O (469) (io), 108 I/O (472) (io), 109 I/O (475) (io), 110 I/O (478) (io), 111 I/O (481) (io), 112 I/O (484) (io), 113 I/O (493) (io), 114 I/O (496) (io), 115 I/O (499) (io), 116 I/O (502) (io), 117 I/O (505) (io), 118 I/O, GCK4 (508) (io), 123 I/O (D7) (511) (io), 124 I/O, GCK5 (514) (io), 125 I/O (517) (io), 126 I/O (520) (io), 127 I/O (523) (io), 128 I/O (526) (io), 129 I/O (D6) (535) (io), 130 I/O (538) (io), 131 I/O (541) (io), 132 I/O (544) (io), 133 I/O (547) (io), 134 I/O (550) (io), 136 I/O (553) (io), 137 I/O (556) (io), 138 I/O (559) (io), 139 I/O (562) (io), 141 I/O (D5) (565) (io), 142 I/O (~{CS0}) (568) (io), 144 I/O (577) (io), 145 I/O (580) (io), 146 I/O (583) (io), 147 I/O (586) (io), 148 I/O (D4) (589) (io), 149 I/O (592) (io), 152 I/O (D3) (595) (io), 153 I/O (~{RS}) (598) (io), 154 I/O (601) (io), 155 I/O (604) (io), 156 I/O (607) (io), 157 I/O (610) (io), 159 I/O (D2) (619) (io), 160 I/O (622) (io), 162 I/O (625) (io), 163 I/O (628) (io), 164 I/O (631) (io), 165 I/O (634) (io), 167 I/O (637) (io), 168 I/O (640) (io), 169 I/O (643) (io), 170 I/O (646) (io), 171 I/O (649) (io), 172 I/O (652) (io), 173 I/O (D1) (655) (io), 174 I/O (~{RCLK}, RDY/~{BUSY}) (658) (io), 175 I/O (667) (io), 176 I/O (670) (io), 177 I/O (D0, DIN) (673) (io), 178 I/O, GCK6 (DOUT) (676) (io), 183 I/O (A0, ~{WS}) (2) (io), 184 I/O, GCK7 (A1) (5) (io), 185 I/O (8) (io), 186 I/O (11) (io), 187 I/O (CS1, A2) (14) (io), 188 I/O (A3) (17) (io), 189 I/O (26) (io), 190 I/O (29) (io), 191 I/O (32) (io), 192 I/O (35) (io), 193 I/O (38) (io), 194 I/O (41) (io), 197 I/O (44) (io), 198 I/O (47) (io), 199 I/O (50) (io), 200 I/O (53) (io), 202 I/O (A4) (62) (io), 203 I/O (A5) (65) (io), 205 I/O (68) (io), 206 I/O (71) (io), 207 I/O (A21) (74) (io), 208 I/O (A20) (77) (io), 209 I/O (A6) (80) (io), 210 I/O (A7) (83) (io), 213 I/O (A8) (86) (io), 214 I/O (A9) (89) (io), 215 I/O (A19) (92) (io), 216 I/O (A18) (95) (io), 217 I/O (98) (io), 218 I/O (101) (io), 220 I/O (A10) (104) (io), 221 I/O (A11) (107) (io), 223 I/O (116) (io), 224 I/O (119) (io), 225 I/O (122) (io), 226 I/O (125) (io), 228 I/O (128) (io), 229 I/O (131) (io), 230 I/O (134) (io), 231 I/O (137) (io), 232 I/O (A12) (140) (io), 233 I/O (A13) (143) (io), 234 I/O (152) (io), 235 I/O (155) (io), 236 I/O (158) (io), 237 I/O (161) (io), 238 I/O (A14) (164) (io), 239 I/O, GCK8 (A15) (167) (io)
part B pins: 1 GND (power), 6 I/O, TDI (182) (io), 7 I/O, TCK (185) (io), 14 GND (power), 17 I/O, TMS (218) (io), 19 VCC (power), 22 GND * (power), 29 GND (power), 30 VCC (power), 37 GND * (power), 40 VCC (power), 45 GND (power), 58 O (M1) (338) (io), 59 GND (power), 60 I (M0) (341) (in), 61 VCC (power), 62 I (M2) (342) (in), 75 GND (power), 80 VCC (power), 83 GND * (power), 90 VCC (power), 91 GND (power), 98 GND * (power), 101 VCC (power), 106 GND (power), 119 GND (power), 120 DONE (io), 121 VCC (power), 122 ~{PROGRAM} (in), 135 GND (power), 140 VCC (power), 143 GND * (power), 150 VCC (power), 151 GND (power), 158 GND * (power), 161 VCC (power), 166 GND (power), 179 CCLK (io), 180 VCC (power), 181 O, TDO (0) (hiz), 182 GND (power), 195 NC, 196 GND (power), 201 VCC (power), 204 GND * (power), 211 GND (power), 212 VCC (power), 219 GND * (power), 222 VCC (power), 227 GND (power), 240 VCC (power)

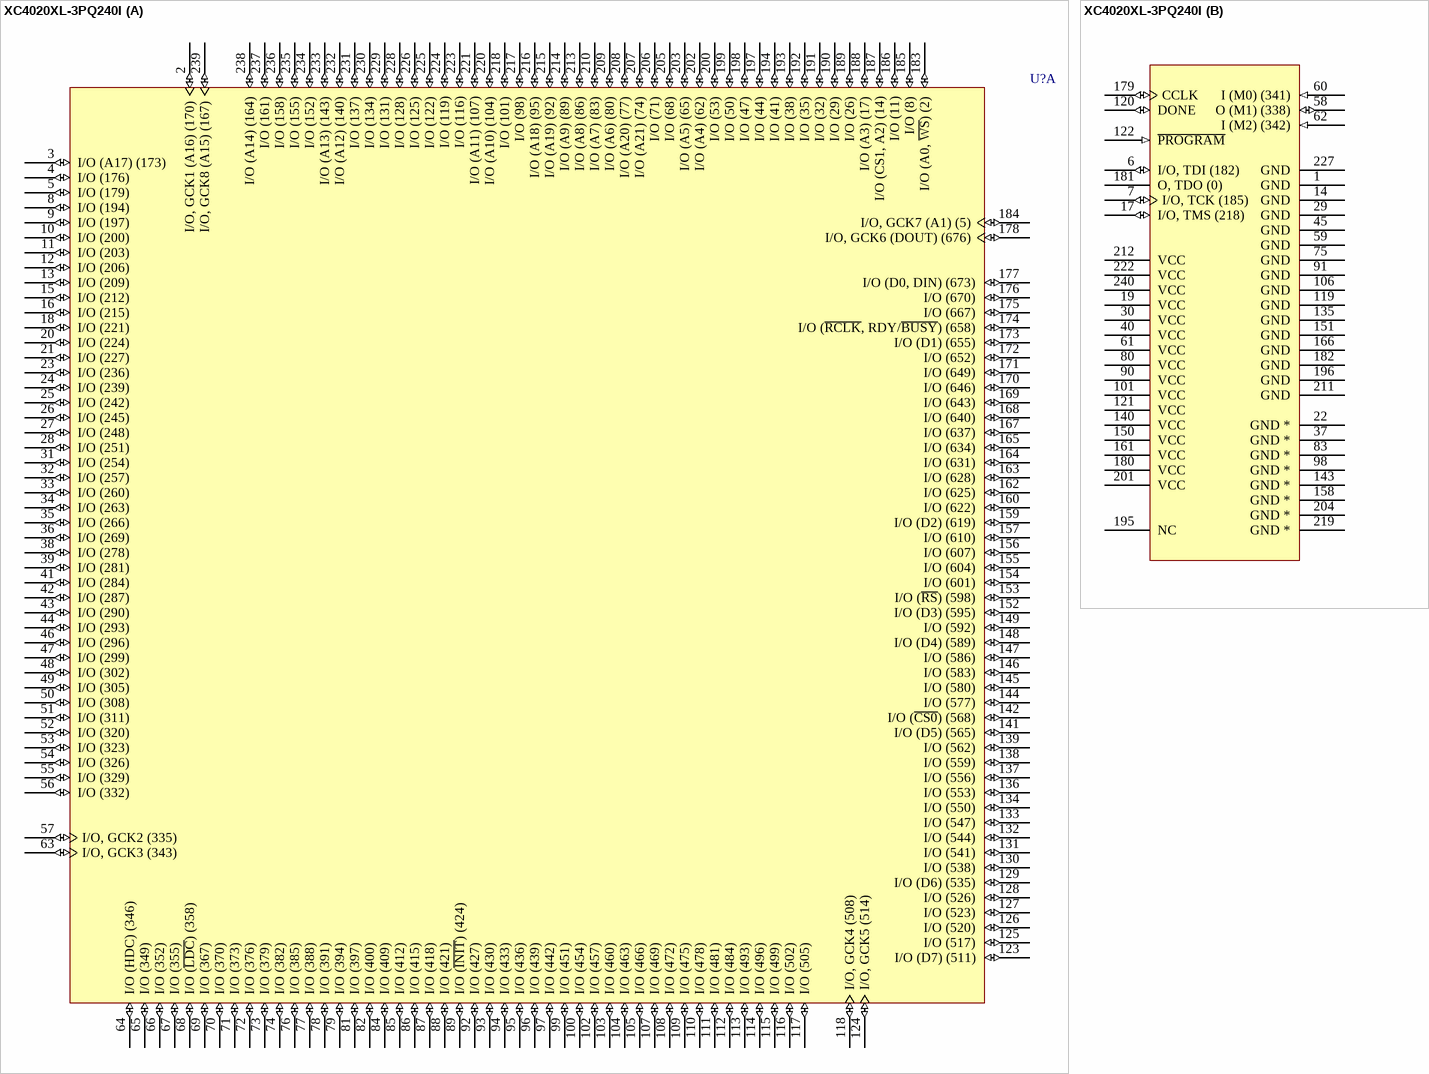
[diagram p156: symbol XC4020XL-3PQ240I]

## XC4020XL-3PQ240I
designator U?
XC4000XL FPGA, 240-Pin PQFP, Industrial Grade; PackageDocument: ver1.1, Oct-2002; Published: 28-Feb-2003; DatasheetDocument: (v1.6) May-99; PackageReference: PQ240; Publisher: Altium Limited; Code_JEDEC: MO-143-GA
footprint PQ240 (240-Pin Plastic Quad Flat Pack (PQ240))
part A pins: 2 I/O, GCK1 (A16) (170) (io), 3 I/O (A17) (173) (io), 4 I/O (176) (io), 5 I/O (179) (io), 8 I/O (194) (io), 9 I/O (197) (io), 10 I/O (200) (io), 11 I/O (203) (io), 12 I/O (206) (io), 13 I/O (209) (io), 15 I/O (212) (io), 16 I/O (215) (io), 18 I/O (221) (io), 20 I/O (224) (io), 21 I/O (227) (io), 23 I/O (236) (io), 24 I/O (239) (io), 25 I/O (242) (io), 26 I/O (245) (io), 27 I/O (248) (io), 28 I/O (251) (io), 31 I/O (254) (io), 32 I/O (257) (io), 33 I/O (260) (io), 34 I/O (263) (io), 35 I/O (266) (io), 36 I/O (269) (io), 38 I/O (278) (io), 39 I/O (281) (io), 41 I/O (284) (io), 42 I/O (287) (io), 43 I/O (290) (io), 44 I/O (293) (io), 46 I/O (296) (io), 47 I/O (299) (io), 48 I/O (302) (io), 49 I/O (305) (io), 50 I/O (308) (io), 51 I/O (311) (io), 52 I/O (320) (io), 53 I/O (323) (io), 54 I/O (326) (io), 55 I/O (329) (io), 56 I/O (332) (io), 57 I/O, GCK2 (335) (io), 63 I/O, GCK3 (343) (io), 64 I/O (HDC) (346) (io), 65 I/O (349) (io), 66 I/O (352) (io), 67 I/O (355) (io), 68 I/O (~{LDC}) (358) (io), 69 I/O (367) (io), 70 I/O (370) (io), 71 I/O (373) (io), 72 I/O (376) (io), 73 I/O (379) (io), 74 I/O (382) (io), 76 I/O (385) (io), 77 I/O (388) (io), 78 I/O (391) (io), 79 I/O (394) (io), 81 I/O (397) (io), 82 I/O (400) (io), 84 I/O (409) (io), 85 I/O (412) (io), 86 I/O (415) (io), 87 I/O (418) (io), 88 I/O (421) (io), 89 I/O (~{INIT}) (424) (io), 92 I/O (427) (io), 93 I/O (430) (io), 94 I/O (433) (io), 95 I/O (436) (io), 96 I/O (439) (io), 97 I/O (442) (io), 99 I/O (451) (io), 100 I/O (454) (io), 102 I/O (457) (io), 103 I/O (460) (io), 104 I/O (463) (io), 105 I/O (466) (io), 107 I/O (469) (io), 108 I/O (472) (io), 109 I/O (475) (io), 110 I/O (478) (io), 111 I/O (481) (io), 112 I/O (484) (io), 113 I/O (493) (io), 114 I/O (496) (io), 115 I/O (499) (io), 116 I/O (502) (io), 117 I/O (505) (io), 118 I/O, GCK4 (508) (io), 123 I/O (D7) (511) (io), 124 I/O, GCK5 (514) (io), 125 I/O (517) (io), 126 I/O (520) (io), 127 I/O (523) (io), 128 I/O (526) (io), 129 I/O (D6) (535) (io), 130 I/O (538) (io), 131 I/O (541) (io), 132 I/O (544) (io), 133 I/O (547) (io), 134 I/O (550) (io), 136 I/O (553) (io), 137 I/O (556) (io), 138 I/O (559) (io), 139 I/O (562) (io), 141 I/O (D5) (565) (io), 142 I/O (~{CS0}) (568) (io), 144 I/O (577) (io), 145 I/O (580) (io), 146 I/O (583) (io), 147 I/O (586) (io), 148 I/O (D4) (589) (io), 149 I/O (592) (io), 152 I/O (D3) (595) (io), 153 I/O (~{RS}) (598) (io), 154 I/O (601) (io), 155 I/O (604) (io), 156 I/O (607) (io), 157 I/O (610) (io), 159 I/O (D2) (619) (io), 160 I/O (622) (io), 162 I/O (625) (io), 163 I/O (628) (io), 164 I/O (631) (io), 165 I/O (634) (io), 167 I/O (637) (io), 168 I/O (640) (io), 169 I/O (643) (io), 170 I/O (646) (io), 171 I/O (649) (io), 172 I/O (652) (io), 173 I/O (D1) (655) (io), 174 I/O (~{RCLK}, RDY/~{BUSY}) (658) (io), 175 I/O (667) (io), 176 I/O (670) (io), 177 I/O (D0, DIN) (673) (io), 178 I/O, GCK6 (DOUT) (676) (io), 183 I/O (A0, ~{WS}) (2) (io), 184 I/O, GCK7 (A1) (5) (io), 185 I/O (8) (io), 186 I/O (11) (io), 187 I/O (CS1, A2) (14) (io), 188 I/O (A3) (17) (io), 189 I/O (26) (io), 190 I/O (29) (io), 191 I/O (32) (io), 192 I/O (35) (io), 193 I/O (38) (io), 194 I/O (41) (io), 197 I/O (44) (io), 198 I/O (47) (io), 199 I/O (50) (io), 200 I/O (53) (io), 202 I/O (A4) (62) (io), 203 I/O (A5) (65) (io), 205 I/O (68) (io), 206 I/O (71) (io), 207 I/O (A21) (74) (io), 208 I/O (A20) (77) (io), 209 I/O (A6) (80) (io), 210 I/O (A7) (83) (io), 213 I/O (A8) (86) (io), 214 I/O (A9) (89) (io), 215 I/O (A19) (92) (io), 216 I/O (A18) (95) (io), 217 I/O (98) (io), 218 I/O (101) (io), 220 I/O (A10) (104) (io), 221 I/O (A11) (107) (io), 223 I/O (116) (io), 224 I/O (119) (io), 225 I/O (122) (io), 226 I/O (125) (io), 228 I/O (128) (io), 229 I/O (131) (io), 230 I/O (134) (io), 231 I/O (137) (io), 232 I/O (A12) (140) (io), 233 I/O (A13) (143) (io), 234 I/O (152) (io), 235 I/O (155) (io), 236 I/O (158) (io), 237 I/O (161) (io), 238 I/O (A14) (164) (io), 239 I/O, GCK8 (A15) (167) (io)
part B pins: 1 GND (power), 6 I/O, TDI (182) (io), 7 I/O, TCK (185) (io), 14 GND (power), 17 I/O, TMS (218) (io), 19 VCC (power), 22 GND * (power), 29 GND (power), 30 VCC (power), 37 GND * (power), 40 VCC (power), 45 GND (power), 58 O (M1) (338) (io), 59 GND (power), 60 I (M0) (341) (in), 61 VCC (power), 62 I (M2) (342) (in), 75 GND (power), 80 VCC (power), 83 GND * (power), 90 VCC (power), 91 GND (power), 98 GND * (power), 101 VCC (power), 106 GND (power), 119 GND (power), 120 DONE (io), 121 VCC (power), 122 ~{PROGRAM} (in), 135 GND (power), 140 VCC (power), 143 GND * (power), 150 VCC (power), 151 GND (power), 158 GND * (power), 161 VCC (power), 166 GND (power), 179 CCLK (io), 180 VCC (power), 181 O, TDO (0) (hiz), 182 GND (power), 195 NC, 196 GND (power), 201 VCC (power), 204 GND * (power), 211 GND (power), 212 VCC (power), 219 GND * (power), 222 VCC (power), 227 GND (power), 240 VCC (power)

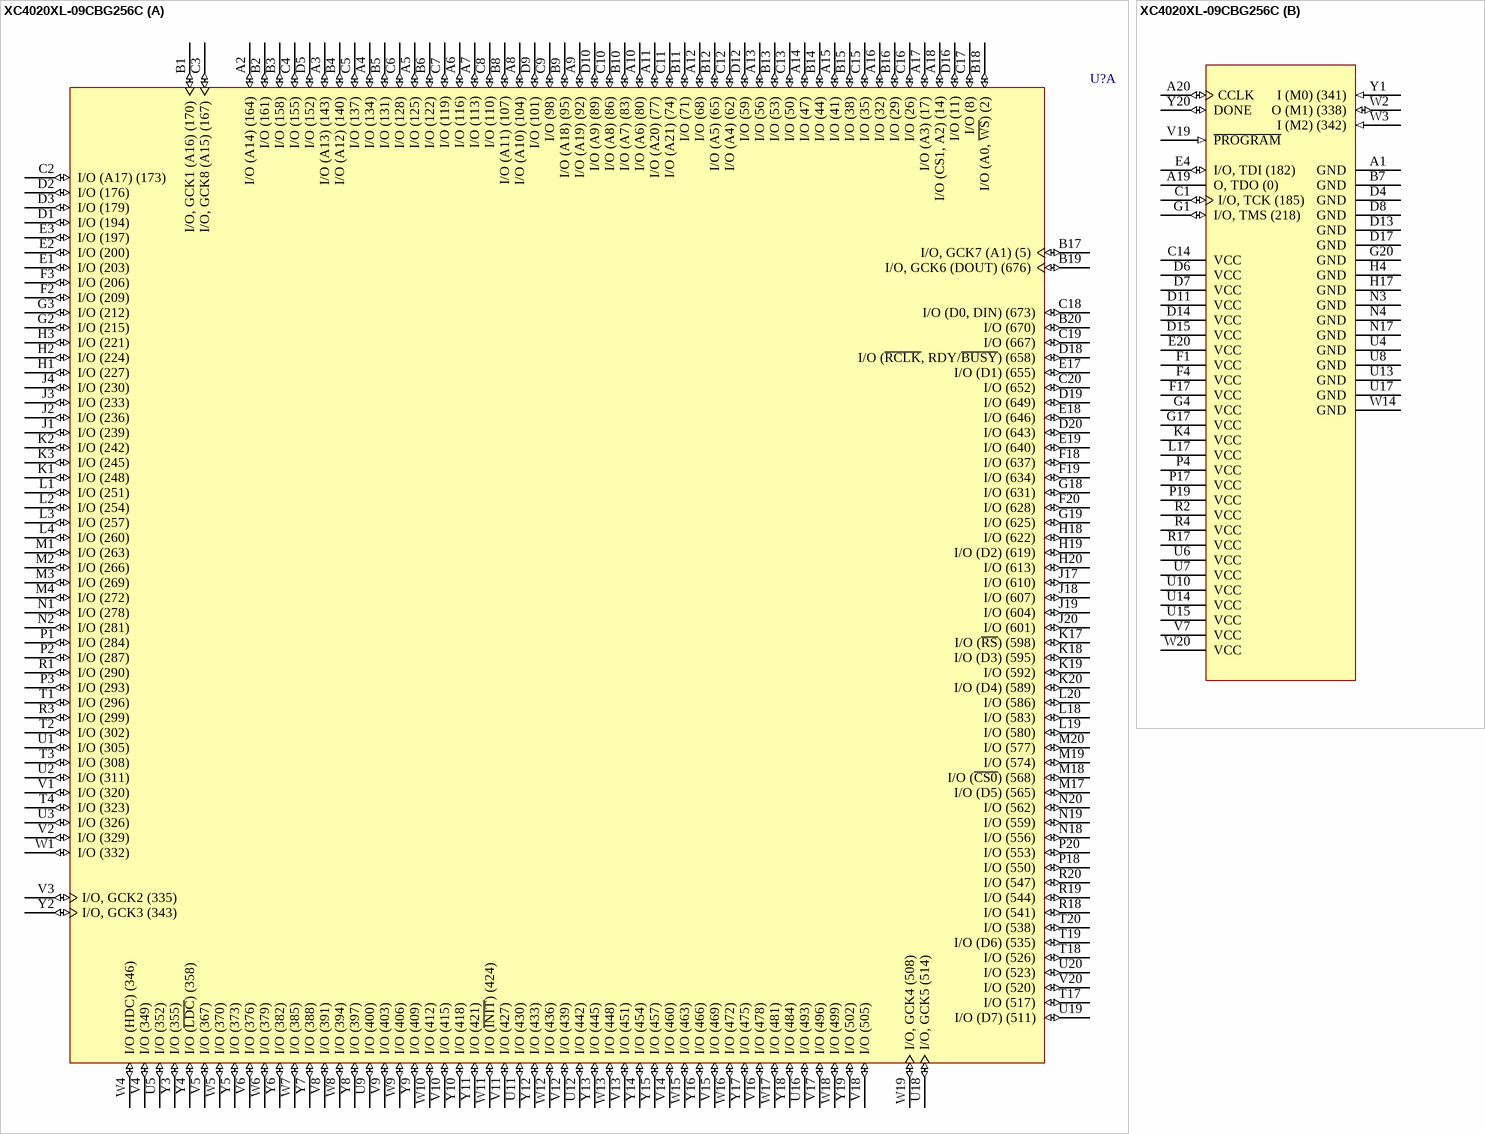
[diagram p157: symbol XC4020XL-09CBG256C]

## XC4020XL-09CBG256C
designator U?
XC4000XL FPGA, 256-Ball BGA, Commercial Grade; PackageDocument: ver1.1, Apr-2001; Published: 28-Feb-2003; DatasheetDocument: (v1.6) May-99; PackageReference: BG256; Publisher: Altium Limited; Code_JEDEC: MS-034-BAL-2
footprint BG256 (256-Ball Plastic Ball Grid Array (BG256))
part A pins: A2 I/O (A14) (164) (io), A3 I/O (A13) (143) (io), A4 I/O (134) (io), A5 I/O (125) (io), A6 I/O (116) (io), A7 I/O (113) (io), A8 I/O (A10) (104) (io), A9 I/O (A19) (92) (io), A10 I/O (A6) (80) (io), A11 I/O (A20) (77) (io), A12 I/O (68) (io), A13 I/O (56) (io), A14 I/O (47) (io), A15 I/O (41) (io), A16 I/O (32) (io), A17 I/O (A3) (17) (io), A18 I/O (CS1, A2) (14) (io), B1 I/O, GCK1 (A16) (170) (io), B2 I/O (161) (io), B3 I/O (158) (io), B4 I/O (A12) (140) (io), B5 I/O (131) (io), B6 I/O (122) (io), B8 I/O (A11) (107) (io), B9 I/O (A18) (95) (io), B10 I/O (A7) (83) (io), B11 I/O (71) (io), B12 I/O (A5) (65) (io), B13 I/O (53) (io), B14 I/O (44) (io), B15 I/O (38) (io), B16 I/O (29) (io), B17 I/O, GCK7 (A1) (5) (io), B18 I/O (A0, ~{WS}) (2) (io), B19 I/O, GCK6 (DOUT) (676) (io), B20 I/O (670) (io), C2 I/O (A17) (173) (io), C3 I/O, GCK8 (A15) (167) (io), C4 I/O (155) (io), C5 I/O (137) (io), C6 I/O (128) (io), C7 I/O (119) (io), C8 I/O (110) (io), C9 I/O (98) (io), C10 I/O (A8) (86) (io), C11 I/O (A21) (74) (io), C12 I/O (A4) (62) (io), C13 I/O (50) (io), C15 I/O (35) (io), C16 I/O (26) (io), C17 I/O (8) (io), C18 I/O (D0, DIN) (673) (io), C19 I/O (667) (io), C20 I/O (652) (io), D1 I/O (194) (io), D2 I/O (176) (io), D3 I/O (179) (io), D5 I/O (152) (io), D9 I/O (101) (io), D10 I/O (A9) (89) (io), D12 I/O (59) (io), D16 I/O (11) (io), D18 I/O (~{RCLK}, RDY/~{BUSY}) (658) (io), D19 I/O (649) (io), D20 I/O (643) (io), E1 I/O (203) (io), E2 I/O (200) (io), E3 I/O (197) (io), E17 I/O (D1) (655) (io), E18 I/O (646) (io), E19 I/O (640) (io), F2 I/O (209) (io), F3 I/O (206) (io), F18 I/O (637) (io), F19 I/O (634) (io), F20 I/O (628) (io), G2 I/O (215) (io), G3 I/O (212) (io), G18 I/O (631) (io), G19 I/O (625) (io), H1 I/O (227) (io), H2 I/O (224) (io), H3 I/O (221) (io), H18 I/O (622) (io), H19 I/O (D2) (619) (io), H20 I/O (613) (io), J1 I/O (239) (io), J2 I/O (236) (io), J3 I/O (233) (io), J4 I/O (230) (io), J17 I/O (610) (io), J18 I/O (607) (io), J19 I/O (604) (io), J20 I/O (601) (io), K1 I/O (248) (io), K2 I/O (242) (io), K3 I/O (245) (io), K17 I/O (~{RS}) (598) (io), K18 I/O (D3) (595) (io), K19 I/O (592) (io), K20 I/O (D4) (589) (io), L1 I/O (251) (io), L2 I/O (254) (io), L3 I/O (257) (io), L4 I/O (260) (io), L18 I/O (583) (io), L19 I/O (580) (io), L20 I/O (586) (io), M1 I/O (263) (io), M2 I/O (266) (io), M3 I/O (269) (io), M4 I/O (272) (io), M17 I/O (D5) (565) (io), M18 I/O (~{CS0}) (568) (io), M19 I/O (574) (io), M20 I/O (577) (io), N1 I/O (278) (io), N2 I/O (281) (io), N18 I/O (556) (io), N19 I/O (559) (io), N20 I/O (562) (io), P1 I/O (284) (io), P2 I/O (287) (io), P3 I/O (293) (io), P18 I/O (550) (io), P20 I/O (553) (io), R1 I/O (290) (io), R3 I/O (299) (io), R18 I/O (541) (io), R19 I/O (544) (io), R20 I/O (547) (io), T1 I/O (296) (io), T2 I/O (302) (io), T3 I/O (308) (io), T4 I/O (323) (io), T17 I/O (517) (io), T18 I/O (526) (io), T19 I/O (D6) (535) (io), T20 I/O (538) (io), U1 I/O (305) (io), U2 I/O (311) (io), U3 I/O (326) (io), U5 I/O (352) (io), U9 I/O (400) (io), U11 I/O (430) (io), U12 I/O (442) (io), U16 I/O (493) (io), U18 I/O, GCK5 (514) (io), U19 I/O (D7) (511) (io), U20 I/O (523) (io), V1 I/O (320) (io), V2 I/O (329) (io), V3 I/O, GCK2 (335) (io), V4 I/O (349) (io), V5 I/O (367) (io), V6 I/O (376) (io), V8 I/O (391) (io), V9 I/O (403) (io), V10 I/O (415) (io), V11 I/O (427) (io), V12 I/O (439) (io), V13 I/O (451) (io), V14 I/O (460) (io), V15 I/O (469) (io), V16 I/O (478) (io), V17 I/O (496) (io), V18 I/O (505) (io), V20 I/O (520) (io), W1 I/O (332) (io), W4 I/O (HDC) (346) (io), W5 I/O (370) (io), W6 I/O (379) (io), W7 I/O (385) (io), W8 I/O (394) (io), W9 I/O (406) (io), W10 I/O (412) (io), W11 I/O (~{INIT}) (424) (io), W12 I/O (436) (io), W13 I/O (448) (io), W15 I/O (463) (io), W16 I/O (472) (io), W17 I/O (481) (io), W18 I/O (499) (io), W19 I/O, GCK4 (508) (io), Y2 I/O, GCK3 (343) (io), Y3 I/O (355) (io), Y4 I/O (~{LDC}) (358) (io), Y5 I/O (373) (io), Y6 I/O (382) (io), Y7 I/O (388) (io), Y8 I/O (397) (io), Y9 I/O (409) (io), Y10 I/O (418) (io), Y11 I/O (421) (io), Y12 I/O (433) (io), Y13 I/O (445) (io), Y14 I/O (454) (io), Y15 I/O (457) (io), Y16 I/O (466) (io), Y17 I/O (475) (io), Y18 I/O (484) (io), Y19 I/O (502) (io)
part B pins: A1 GND (power), A19 O, TDO (0) (hiz), A20 CCLK (io), B7 GND (power), C1 I/O, TCK (185) (io), C14 VCC (power), D4 GND (power), D6 VCC (power), D7 VCC (power), D8 GND (power), D11 VCC (power), D13 GND (power), D14 VCC (power), D15 VCC (power), D17 GND (power), E4 I/O, TDI (182) (io), E20 VCC (power), F1 VCC (power), F4 VCC (power), F17 VCC (power), G1 I/O, TMS (218) (io), G4 VCC (power), G17 VCC (power), G20 GND (power), H4 GND (power), H17 GND (power), K4 VCC (power), L17 VCC (power), N3 GND (power), N4 GND (power), N17 GND (power), P4 VCC (power), P17 VCC (power), P19 VCC (power), R2 VCC (power), R4 VCC (power), R17 VCC (power), U4 GND (power), U6 VCC (power), U7 VCC (power), U8 GND (power), U10 VCC (power), U13 GND (power), U14 VCC (power), U15 VCC (power), U17 GND (power), V7 VCC (power), V19 ~{PROGRAM} (in), W2 O (M1) (338) (io), W3 I (M2) (342) (in), W14 GND (power), W20 VCC (power), Y1 I (M0) (341) (in), Y20 DONE (io)

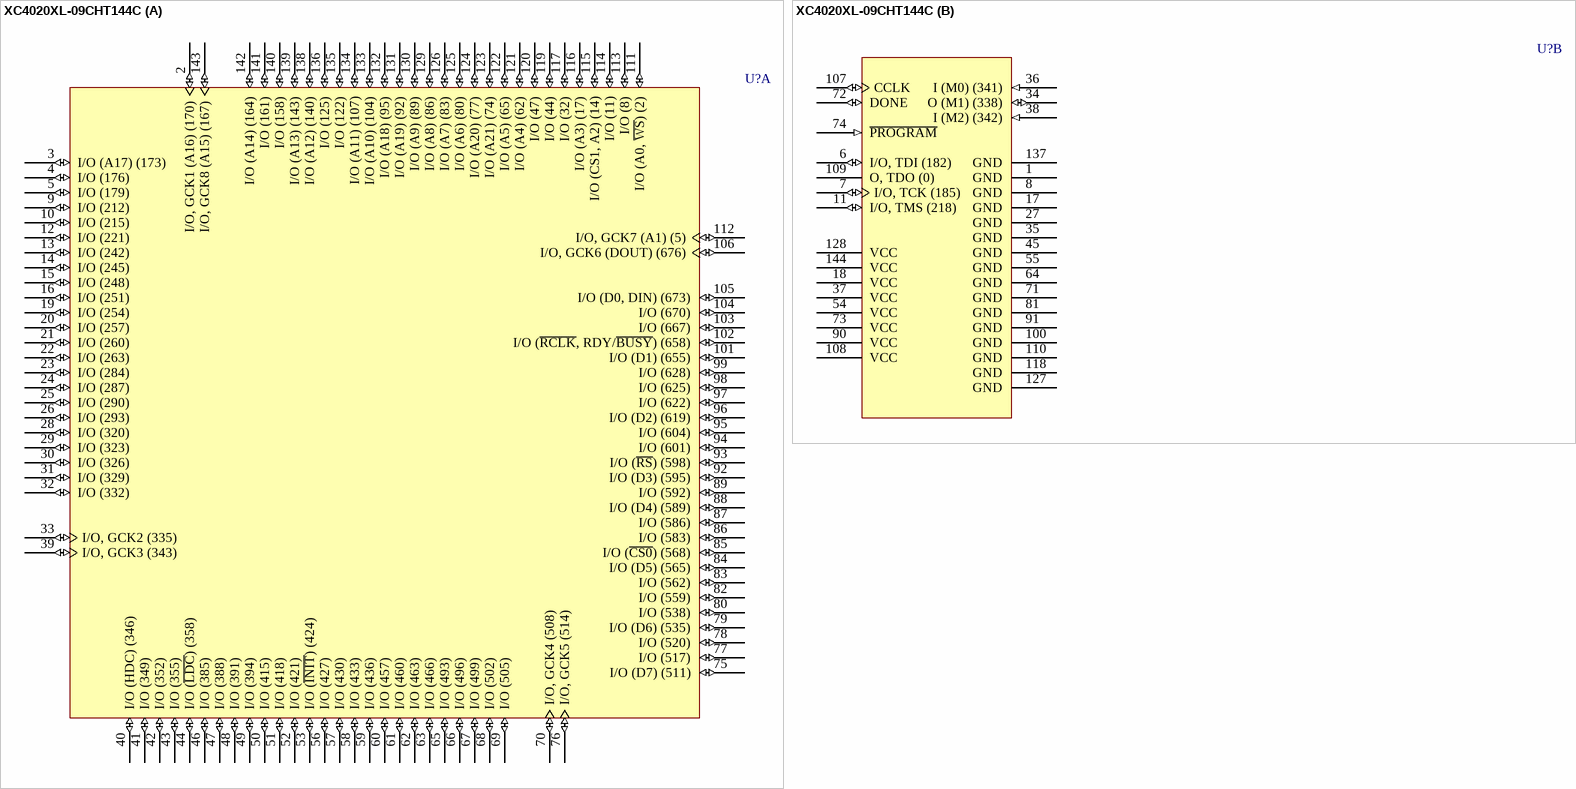
[diagram p158: symbol XC4020XL-09CHT144C]

## XC4020XL-09CHT144C
designator U?
XC4000XL FPGA, 144-Pin HTQFP, Commercial Grade; PackageDocument: ver1.1, Oct-2002; Published: 28-Feb-2003; DatasheetDocument: (v1.6) May-99; PackageReference: HT144; Publisher: Altium Limited; Code_IPC: SQFP20X20-144
footprint HT144 (144-Pin Heat Sink Thin Quad Flat Pack (HT144))
part A pins: 2 I/O, GCK1 (A16) (170) (io), 3 I/O (A17) (173) (io), 4 I/O (176) (io), 5 I/O (179) (io), 9 I/O (212) (io), 10 I/O (215) (io), 12 I/O (221) (io), 13 I/O (242) (io), 14 I/O (245) (io), 15 I/O (248) (io), 16 I/O (251) (io), 19 I/O (254) (io), 20 I/O (257) (io), 21 I/O (260) (io), 22 I/O (263) (io), 23 I/O (284) (io), 24 I/O (287) (io), 25 I/O (290) (io), 26 I/O (293) (io), 28 I/O (320) (io), 29 I/O (323) (io), 30 I/O (326) (io), 31 I/O (329) (io), 32 I/O (332) (io), 33 I/O, GCK2 (335) (io), 39 I/O, GCK3 (343) (io), 40 I/O (HDC) (346) (io), 41 I/O (349) (io), 42 I/O (352) (io), 43 I/O (355) (io), 44 I/O (~{LDC}) (358) (io), 46 I/O (385) (io), 47 I/O (388) (io), 48 I/O (391) (io), 49 I/O (394) (io), 50 I/O (415) (io), 51 I/O (418) (io), 52 I/O (421) (io), 53 I/O (~{INIT}) (424) (io), 56 I/O (427) (io), 57 I/O (430) (io), 58 I/O (433) (io), 59 I/O (436) (io), 60 I/O (457) (io), 61 I/O (460) (io), 62 I/O (463) (io), 63 I/O (466) (io), 65 I/O (493) (io), 66 I/O (496) (io), 67 I/O (499) (io), 68 I/O (502) (io), 69 I/O (505) (io), 70 I/O, GCK4 (508) (io), 75 I/O (D7) (511) (io), 76 I/O, GCK5 (514) (io), 77 I/O (517) (io), 78 I/O (520) (io), 79 I/O (D6) (535) (io), 80 I/O (538) (io), 82 I/O (559) (io), 83 I/O (562) (io), 84 I/O (D5) (565) (io), 85 I/O (~{CS0}) (568) (io), 86 I/O (583) (io), 87 I/O (586) (io), 88 I/O (D4) (589) (io), 89 I/O (592) (io), 92 I/O (D3) (595) (io), 93 I/O (~{RS}) (598) (io), 94 I/O (601) (io), 95 I/O (604) (io), 96 I/O (D2) (619) (io), 97 I/O (622) (io), 98 I/O (625) (io), 99 I/O (628) (io), 101 I/O (D1) (655) (io), 102 I/O (~{RCLK}, RDY/~{BUSY}) (658) (io), 103 I/O (667) (io), 104 I/O (670) (io), 105 I/O (D0, DIN) (673) (io), 106 I/O, GCK6 (DOUT) (676) (io), 111 I/O (A0, ~{WS}) (2) (io), 112 I/O, GCK7 (A1) (5) (io), 113 I/O (8) (io), 114 I/O (11) (io), 115 I/O (CS1, A2) (14) (io), 116 I/O (A3) (17) (io), 117 I/O (32) (io), 119 I/O (44) (io), 120 I/O (47) (io), 121 I/O (A4) (62) (io), 122 I/O (A5) (65) (io), 123 I/O (A21) (74) (io), 124 I/O (A20) (77) (io), 125 I/O (A6) (80) (io), 126 I/O (A7) (83) (io), 129 I/O (A8) (86) (io), 130 I/O (A9) (89) (io), 131 I/O (A19) (92) (io), 132 I/O (A18) (95) (io), 133 I/O (A10) (104) (io), 134 I/O (A11) (107) (io), 135 I/O (122) (io), 136 I/O (125) (io), 138 I/O (A12) (140) (io), 139 I/O (A13) (143) (io), 140 I/O (158) (io), 141 I/O (161) (io), 142 I/O (A14) (164) (io), 143 I/O, GCK8 (A15) (167) (io)
part B pins: 1 GND (power), 6 I/O, TDI (182) (io), 7 I/O, TCK (185) (io), 8 GND (power), 11 I/O, TMS (218) (io), 17 GND (power), 18 VCC (power), 27 GND (power), 34 O (M1) (338) (io), 35 GND (power), 36 I (M0) (341) (in), 37 VCC (power), 38 I (M2) (342) (in), 45 GND (power), 54 VCC (power), 55 GND (power), 64 GND (power), 71 GND (power), 72 DONE (io), 73 VCC (power), 74 ~{PROGRAM} (in), 81 GND (power), 90 VCC (power), 91 GND (power), 100 GND (power), 107 CCLK (io), 108 VCC (power), 109 O, TDO (0) (hiz), 110 GND (power), 118 GND (power), 127 GND (power), 128 VCC (power), 137 GND (power), 144 VCC (power)

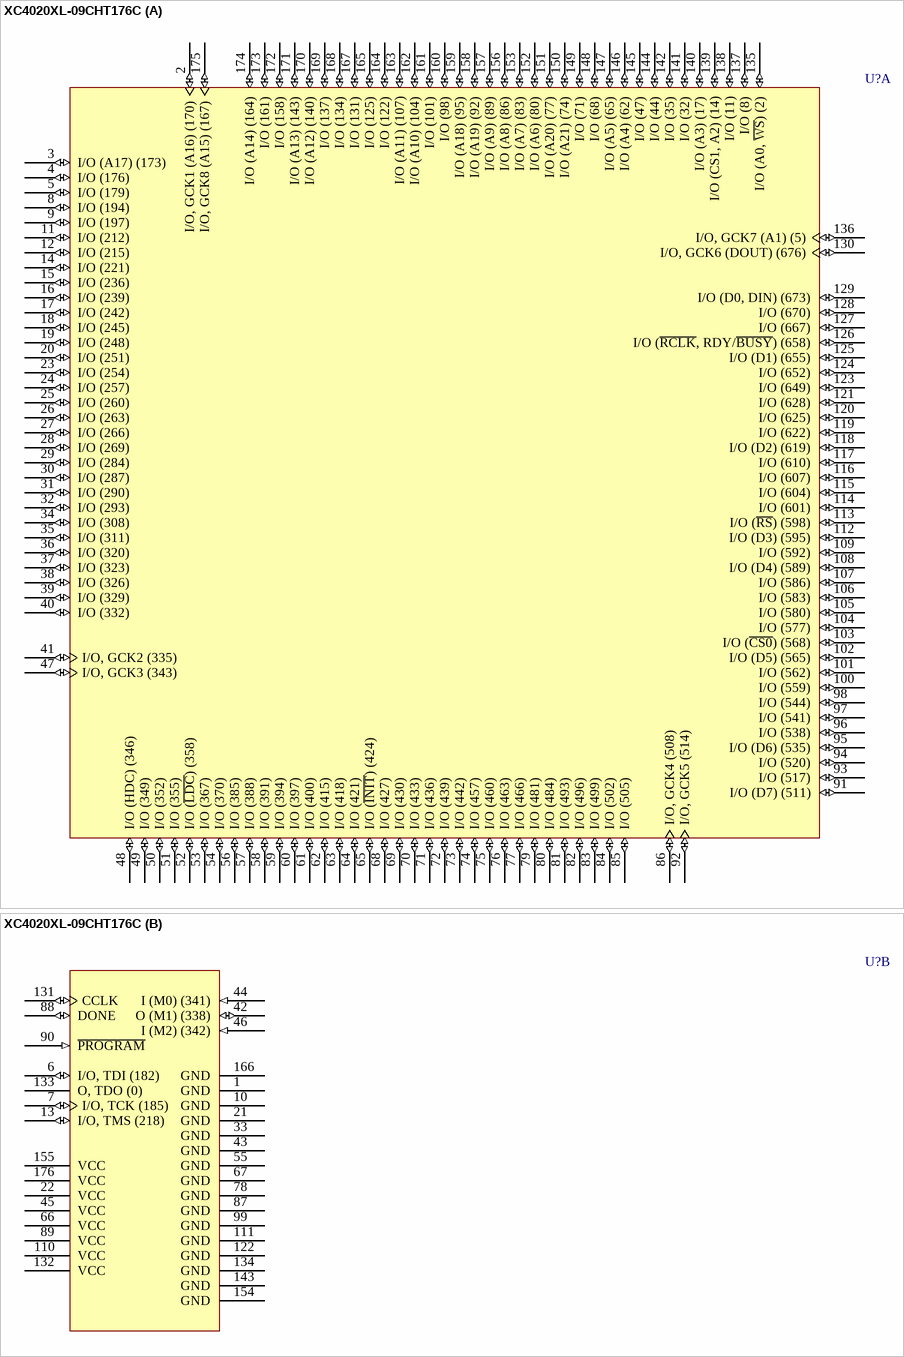
[diagram p159: symbol XC4020XL-09CHT176C]